# Altium schematic symbol library Basic Devices.SCHLIB: 237 symbols (part 1 of 2)
Pins are listed as number, name and electrical type; pins without a type are passive.

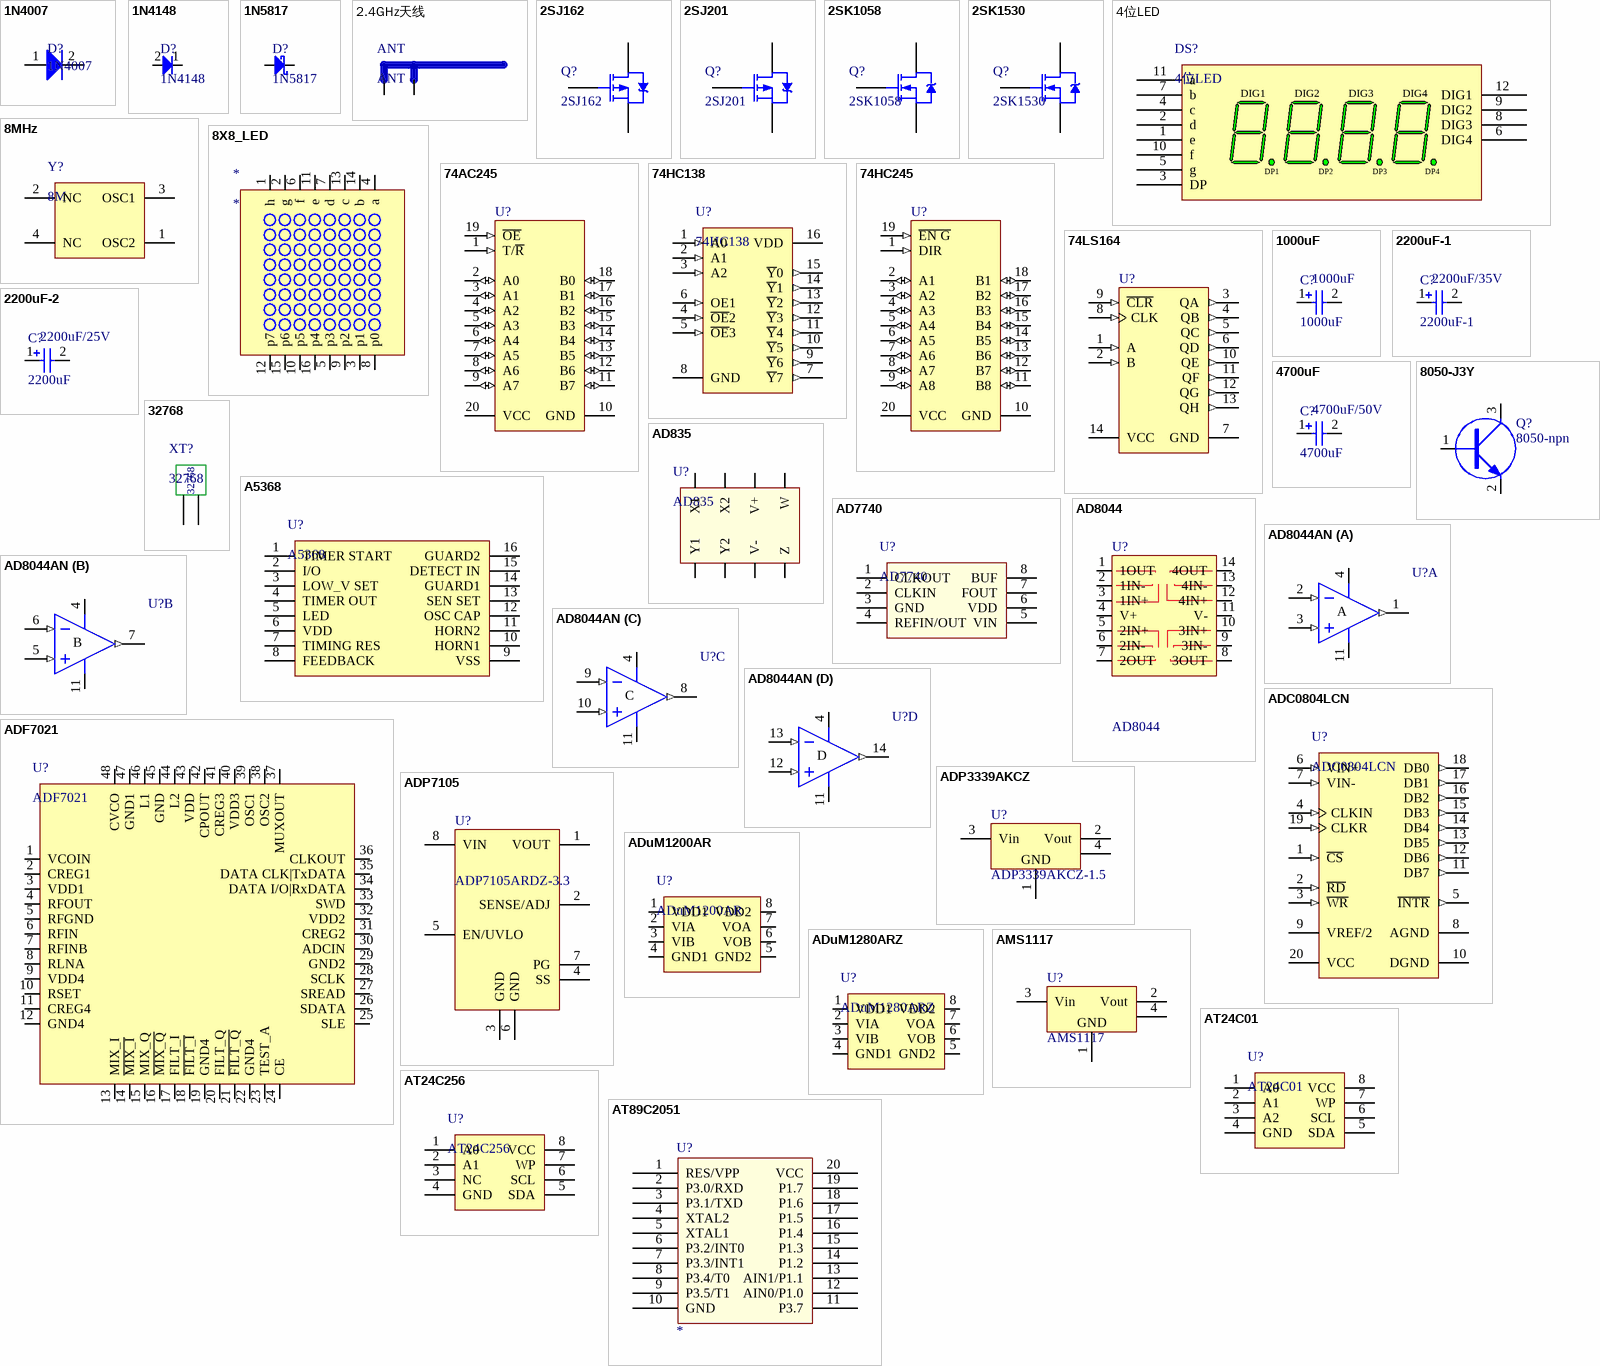
[diagram p0: symbols 1N4007 to AT89C2051]

## 1N4007
designator D?
整流二极管; Publisher: 赵国涛; Published: 20090215
footprint SMA/DO-214AC (Molded Diode, 2-Leads, Body 4.3x2.7mm, IPC Medium Density)
footprint DIODE-0.4 (Diode, Thru-Hole; 2 Leads; 0.4 in Pin Spacing)
pins: 1 A, 2 C

## 1N4148
designator D?
开关二极管; Publisher: 胡浩; Published: 20110225
footprint SMA/DO-214AC (Molded Diode, 2-Leads, Body 4.3x2.7mm, IPC Medium Density)
footprint DIODE-0.4 (Diode, Thru-Hole; 2 Leads; 0.4 in Pin Spacing)
pins: 1, 2

## 1N5817
designator D?
肖特基势垒整流二极管; Publisher: 赵国涛; Published: 20100927
footprint SMA/DO-214AC (Molded Diode, 2-Leads, Body 4.3x2.6mm, IPC Medium Density)
footprint SMB/DO-214AA (Molded Diode, 2-Leads, Body 4.3x3.6mm, IPC Medium Density)
footprint SMC/DO-214AB (Molded Diode, 2-Leads, Body 6.9x5.9mm, IPC Medium Density)
footprint 1206
pins: 1, 2

## 2.4GHz天线
designator ANT, comment ANT
footprint 2.4GHz天线
pins: 1 GND, 2 IN

## 2SJ162
designator Q?
PMOS; Publisher: 赵国涛; Published: 20110815
footprint TO-220AB
pins: 1 G, 2 S, 3 D

## 2SJ201
designator Q?
PMOS; Publisher: 赵国涛; Published: 20110905
footprint TO-220AB
pins: 1 G, 2 D, 3 S

## 2SK1058
designator Q?
NMOS; Published: 赵国涛; Published: 20110815
footprint TO-220AB
pins: 1 G, 2 S, 3 D

## 2SK1530
designator Q?
NMOS; Publisher: 赵国涛; Published: 20110905
footprint TO-220AB
pins: 1 G, 2 D, 3 S

## 4位LED
designator DS?
4位数码管; Publisher: 赵国涛; Published: 20090126
footprint 数码管
pins: 1 e, 2 d, 3 DP, 4 c, 5 g, 6 DIG4, 7 b, 8 DIG3, 9 DIG2, 10 f, 11 a, 12 DIG1
text: DP1; DP2; DP3; DP4

## 8MHz
designator Y?, comment 8M
8MHz无源晶振，5032封装; Publisher: 赵国涛; Published: 20100214
footprint 5032-4 (5032无源贴片晶振4P,  5*3.2mm)
pins: 1 OSC2, 2 NC, 3 OSC1, 4 NC

## 8X8_LED
designator *
footprint 点阵 (长宽：61mm。64个点。)
pins: 1 h, 2 g, 3 p1, 4 a, 5 p3, 6 f, 7 d, 8 p0, 9 p2, 10 p5, 11 e, 12 p7, 13 c, 14 b, 15 p6, 16 p4

## 74AC245
designator U?
Octal Bi-directional Transceivers with 3-State Inputs/Outputs; Published: 10-Feb-2010; DatasheetVersion: Rev.2.00, Jul-2004; PackageVersion: Sep-2005; PackageReference: PTSP0020JB-A; Publisher: Altium Limited; PackageDescription: 20-Pin Plastic Thin Small Outline Package, 6.5 x 4.4 mm Body, 0.65 mm Pitch; Code_JEITA: P-TSSOP20-4.4x6.5-0.65; ComponentLink1Description: Manufacturer Link; ComponentLink1URL: http://sg.renesas.com/fmwk.jsp?cnt=hd74ac_root.jsp&fp=/products/standard_ic/general_purpose_logic/5v_standard_logic/hd74ac/; ComponentLink2Description: Datasheet; ComponentLink2URL: http://documentation.renesas.com/eng/products/logic/rej03d0263_hd74ac245.pdf; ComponentLink3Description: Packaging Specification; ComponentLink3URL: http://sg.renesas.com/media/products/common_info/package/pdf/ic/code/ptsp0020jb_a.pdf
footprint SOIC-20N (SOIC, 20-Leads, Body 13.0x7.6mm (max), Pitch 1.27mm, IPC Medium Density)
footprint TSOP-20 (TSOP, 20-Leads, Body 6.5x3.2mm (max), Pitch 0.65mm, IPC Medium Density)
footprint SOP-20 (SOP, 20-Leads, Body 13.2x7.5mm (max), Pitch 1.27mm, IPC Medium Density)
footprint DIP-20 (WIDTH:300MIL)
pins: 1 T/~{R} (in), 2 A0 (io), 3 A1 (io), 4 A2 (io), 5 A3 (io), 6 A4 (io), 7 A5 (io), 8 A6 (io), 9 A7 (io), 10 GND (power), 11 B7 (io), 12 B6 (io), 13 B5 (io), 14 B4 (io), 15 B3 (io), 16 B2 (io), 17 B1 (io), 18 B0 (io), 19 ~{OE} (in), 20 VCC (power)

## 74HC138
designator U?
3-8译码器; Publisher: 赵国涛; Published: 20120305
footprint SOP-16
footprint DIP-16 (CHAZUO)
pins: 1 A0 (in), 2 A1 (in), 3 A2 (in), 4 ~{OE}2 (in), 5 ~{OE}3 (in), 6 OE1 (in), 7 ~{Y}7 (out), 8 GND (power), 9 ~{Y}6 (out), 10 ~{Y}5 (out), 11 ~{Y}4 (out), 12 ~{Y}3 (out), 13 ~{Y}2 (out), 14 ~{Y}1 (out), 15 ~{Y}0 (out), 16 VDD (power)

## 74HC245
designator U?
Octal Bus Transceivers with 3-State Outputs; Published: 10-Feb-2010; DatasheetVersion: Rev.2.00, Jan-2006; PackageVersion: Sep-2005; PackageReference: PTSP0020JB-A; Publisher: Altium Limited; PackageDescription: 20-Pin Plastic Thin Small Outline Package, 6.5 x 4.4 mm Body, 0.65 mm Pitch; Code_JEITA: P-TSSOP20-4.4x6.5-0.65; ComponentLink1Description: Manufacturer Link; ComponentLink1URL: http://sg.renesas.com/fmwk.jsp?cnt=hd74hc_root.jsp&fp=/products/standard_ic/general_purpose_logic/5v_standard_logic/hd74hc/; ComponentLink2Description: Datasheet; ComponentLink2URL: http://documentation.renesas.com/eng/products/logic/rej03d0598_hd74hc245ds.pdf; ComponentLink3Description: Packaging Specification; ComponentLink3URL: http://sg.renesas.com/media/products/common_info/package/pdf/ic/code/ptsp0020jb_a.pdf
footprint TSOP-20 (TSOP, 20-Leads, Body 6.5x3.2mm (max), Pitch 0.65mm, IPC Medium Density)
footprint SOP-20 (SOP, 20-Leads, Body 13.2x7.5mm (max), Pitch 1.27mm, IPC Medium Density)
footprint SOIC-20N (SOIC, 20-Leads, Body 13.0x7.6mm (max), Pitch 1.27mm, IPC Medium Density)
footprint DIP-20 (WIDTH:300MIL)
pins: 1 DIR (in), 2 A1 (io), 3 A2 (io), 4 A3 (io), 5 A4 (io), 6 A5 (io), 7 A6 (io), 8 A7 (io), 9 A8 (io), 10 GND (power), 11 B8 (io), 12 B7 (io), 13 B6 (io), 14 B5 (io), 15 B4 (io), 16 B3 (io), 17 B2 (io), 18 B1 (io), 19 ~{EN G} (in), 20 VCC (power)

## 74LS164
designator U?
8-bit Serial-In, Parallel-Out Shift Register; Published: 10-Feb-2010; DatasheetVersion: Rev.2.00, Feb-2005; PackageVersion: Sep-2005; PackageReference: PRDP0014AB-B; Publisher: Altium Limited; PackageDescription: 14-Pin Plastic DIP, 19.2 x 6.3 mm Body, 7.62 mm Row Spacing, Pitch 2.54 mm; Code_JEITA: P-DIP14-6.3x19.2-2.54; ComponentLink1Description: Manufacturer Link; ComponentLink1URL: http://sg.renesas.com/fmwk.jsp?cnt=hd74ls_root.jsp&fp=/products/standard_ic/general_purpose_logic/5v_standard_logic/hd74ls/; ComponentLink2Description: Datasheet; ComponentLink2URL: http://documentation.renesas.com/eng/products/logic/rej03d0448_hd74ls164.pdf; ComponentLink3Description: Packaging Specification; ComponentLink3URL: http://sg.renesas.com/media/products/common_info/package/pdf/ic/code/prdp0014ab_b.pdf
footprint DIP-14
footprint SOP-14 (SOP, 14-Leads, Body 8.7x3.9mm (max), Pitch 1.27mm, IPC Medium Density)
pins: 1 A (in), 2 B (in), 3 QA (out), 4 QB (out), 5 QC (out), 6 QD (out), 7 GND (power), 8 CLK (in), 9 ~{CLR} (in), 10 QE (out), 11 QF (out), 12 QG (out), 13 QH (out), 14 VCC (power)

## 1000uF
designator C?
Polarized Capacitor (Surface Mount); Published: 8-Jun-2000; LatestRevisionDate: 29-May-2009; LatestRevisionNote: IPC-7351 Footprint Added.; PackageReference: C0805; Publisher: Altium Limited; PackageDescription: Chip Capacitor; Value: 1000uF
footprint RB.2/.4 (电解电容封装；200mil；400Mil外径)
simulation model CAP (Capacitor)
signal-integrity model Cap Pol
pins: 1, 2
1 alternate drawing of the same symbol

## 2200uF-1
designator C?  value 2200uF/35V
Polarized Capacitor (Surface Mount); Published: 8-Jun-2000; LatestRevisionDate: 29-May-2009; LatestRevisionNote: IPC-7351 Footprint Added.; PackageReference: C0805; Publisher: Altium Limited; PackageDescription: Chip Capacitor
footprint RB.3/.6 (Polarized Capacitor (Radial); 2 Leads;300mil)
simulation model CAP (Capacitor)
signal-integrity model Cap Pol
pins: 1, 2
1 alternate drawing of the same symbol

## 2200uF-2
designator C?, comment 2200uF  value 2200uF/25V
Polarized Capacitor (Surface Mount); Published: 8-Jun-2000; LatestRevisionDate: 29-May-2009; LatestRevisionNote: IPC-7351 Footprint Added.; PackageReference: C0805; Publisher: Altium Limited; PackageDescription: Chip Capacitor
footprint RB.2/.5 (电解电容封装；200mil;500mil 外径)
simulation model CAP (Capacitor)
signal-integrity model Cap Pol
pins: 1, 2
1 alternate drawing of the same symbol

## 4700uF
designator C?  value 4700uF/50V
大电解电容; Published: 8-Jun-2000; LatestRevisionDate: 29-May-2009; LatestRevisionNote: IPC-7351 Footprint Added.; PackageReference: C0805; Publisher: Altium Limited; PackageDescription: Chip Capacitor
footprint RB.4/.8 (Polarized Capacitor (Radial); 2 Leads;400mil)
simulation model CAP (Capacitor)
signal-integrity model Cap Pol
pins: 1, 2
1 alternate drawing of the same symbol

## 8050-J3Y
designator Q?, comment 8050-npn
NPN贴片三极管; package: SOT-23-3
footprint SOT23-3
pins: 1 B, 2 E, 3 C

## 32768
designator XT?
32768 CRYSTAL
footprint 32768 (32768 PIN)
footprint XTAL-32768
pins: 1 IN, 2 OUT

## A5368
designator U?
Smoke sensor detector
footprint DIP-16 (CHAZUO)
pins: 1 TIMER START, 2 I/O, 3 LOW_V SET, 4 TIMER OUT, 5 LED, 6 VDD, 7 TIMING RES, 8 FEEDBACK, 9 VSS, 10 HORN1, 11 HORN2, 12 OSC CAP, 13 SEN SET, 14 GUARD1, 15 DETECT IN, 16 GUARD2

## AD835
designator U?
250 MHz, Voltage Output, 4-Quadrant Multiplier
footprint DIP-8
pins: 1 Y1, 2 Y2, 3 V-, 4 Z, 5 W, 6 V+, 7 X2, 8 X1

## AD7740
designator U?
TI的压频转换器
footprint DIP-8
footprint SOP-8
pins: 1 CLKOUT, 2 CLKIN, 3 GND, 4 REFIN/OUT, 5 VIN, 6 VDD, 7 FOUT, 8 BUF

## AD8044
designator U?
Quad 150 MHz  Rail-to-Rail Amplifier; Published: 10-Feb-2010; DatasheetVersion: Rev.2.00, Feb-2005; PackageVersion: Sep-2005; PackageReference: PRDP0014AB-B; Publisher: Altium Limited; PackageDescription: 14-Pin Plastic DIP, 19.2 x 6.3 mm Body, 7.62 mm Row Spacing, Pitch 2.54 mm; Code_JEITA: P-DIP14-6.3x19.2-2.54; ComponentLink1Description: Manufacturer Link; ComponentLink1URL: http://sg.renesas.com/fmwk.jsp?cnt=hd74ls_root.jsp&fp=/products/standard_ic/general_purpose_logic/5v_standard_logic/hd74ls/; ComponentLink2Description: Datasheet; ComponentLink2URL: http://documentation.renesas.com/eng/products/logic/rej03d0448_hd74ls164.pdf; ComponentLink3Description: Packaging Specification; ComponentLink3URL: http://sg.renesas.com/media/products/common_info/package/pdf/ic/code/prdp0014ab_b.pdf
footprint DIP-14
footprint SOP-14 (SOP, 14-Leads, Body 8.7x3.9mm (max), Pitch 1.27mm, IPC Medium Density)
pins: 1 1OUT, 2 1IN-, 3 1IN+, 4 V+, 5 2IN+, 6 2IN-, 7 2OUT, 8 3OUT, 9 3IN-, 10 3IN+, 11 V-, 12 4IN+, 13 4IN-, 14 4OUT

## AD8044AN
designator U?
Quad 150MHz Rail-to-Rail Amplifier; Published: 8-Jun-2000; LatestRevisionDate: 04-Mar-2005; LatestRevisionNote: Stylized 3D Model Added.; DatasheetVersion: REV. 0 1995; PackageVersion: 1999; PackageReference: N-14; Publisher: Altium Limited; PackageDescription: DIP; 14 Leads; Row Spacing 7.62 mm; Pitch 2.54 mm; ComponentLink1Description: Manufacturer Link; ComponentLink1URL: http://www.analog.com/en/prod/0,,759_786_AD8044%2C00.html; ComponentLink2Description: Datasheet; ComponentLink2URL: http://www.analog.com/UploadedFiles/Data_Sheets/631034639AD8044_b.pdf
footprint DIP-14 (DIP, 14-Leads, Row Spacing 300mil, Pitch 2.54mm, Body 19.2x6.3mm)
pins on every part: 4 V+ (power), 11 V- (power)
part A pins: 1 OUT (out), 2 IN- (in), 3 IN+ (in)
part B pins: 5 IN+ (in), 6 IN- (in), 7 OUT (out)
part C pins: 8 OUT (out), 9 IN- (in), 10 IN+ (in)
part D pins: 12 IN+ (in), 13 IN- (in), 14 OUT (out)
part A text: A
part B text: B
part C text: C
part D text: D

## ADC0804LCN
designator U?
8-Bit uP Compatible A/D Converters; Manufacturer: National Semiconductor; CompType: ADC IC; PackageTopMarking: NSUZXYYTTE#*ADC0804LCN; PowerWise: N; Published: 4-Dec-2008; DatasheetVersion: Sep-1992; PackageVersion: revG, Nov-1984; PackageReference: N20A; Publisher: Altium Limited; PackageDescription: Molded Dip (N) 20 Lead; PartNumber: ADC0804LCN; RoHS: O; PinCount: 20; DigiKeyPartNumber: ADC0804LCN-ND; Code_JEDEC: MS-001-AD; ComponentLink1Description: ADC0804 Datasheet; ComponentLink1URL: http://www.national.com/ds/AD/ADC0804.pdf; ComponentLink2Description: ADC0804 Web Page; ComponentLink2URL: http://www.national.com/pf/AD/ADC0804.html; ComponentLink3Description: N20A Package Page; ComponentLink3URL: http://www.national.com/packaging/folders/n20a.html
footprint DIP-20 (WIDTH:300MIL)
pins: 1 ~{CS} (in), 2 ~{RD} (in), 3 ~{WR} (in), 4 CLKIN (in), 5 ~{INTR} (out), 6 VIN+ (in), 7 VIN- (in), 8 AGND (power), 9 VREF/2 (power), 10 DGND (power), 11 DB7 (out), 12 DB6 (out), 13 DB5 (out), 14 DB4 (out), 15 DB3 (out), 16 DB2 (out), 17 DB1 (out), 18 DB0 (out), 19 CLKR (in), 20 VCC (power)

## ADF7021
designator U?
High Performance Narrowband   ISM Transceiver IC; 作者: 赵国涛; 封装: LFCSP-48; 日期: 2014-3-24
footprint LFCSP-48 (TI's package: LFCSP-48(QFN48))
pins: 1 VCOIN, 2 CREG1, 3 VDD1, 4 RFOUT, 5 RFGND, 6 RFIN, 7 RFINB, 8 RLNA, 9 VDD4, 10 RSET, 11 CREG4, 12 GND4, 13 MIX_I, 14 ~{MIX_I}, 15 MIX_Q, 16 ~{MIX_Q}, 17 FILT_I, 18 ~{FILT_I}, 19 GND4, 20 FILT_Q, 21 ~{FILT_Q}, 22 GND4, 23 TEST_A, 24 CE, 25 SLE, 26 SDATA, 27 SREAD, 28 SCLK, 29 GND2, 30 ADCIN, 31 CREG2, 32 VDD2, 33 SWD, 34 DATA I/O|RxDATA, 35 DATA CLK|TxDATA, 36 CLKOUT, 37 MUXOUT, 38 OSC2, 39 OSC1, 40 VDD3, 41 CREG3, 42 CPOUT, 43 VDD, 44 L2, 45 GND, 46 L1, 47 GND1, 48 CVCO

## ADP3339AKCZ
designator U?, comment ADP3339AKCZ-1.5
AD 1.5A LDO;VOUT=1.5V; Published: 24-Mar-1999; LatestRevisionDate: 17-Jul-2002; LatestRevisionNote: Re-released for DXP Platform.; PackageReference: SOT223; Publisher: ZGT; Code_JEDEC: SMD-220
footprint SOT223 (SOT223, 4-Leads, Body 6.5x3.5mm, Pitch 2.3mm, Lead Span 7mm, IPC High Density)
pins: 1 GND, 2 Vout, 3 Vin, 4 VOUT

## ADP7105
designator U?, comment ADP7105ARDZ-3.3
AD 20 V, 500 mA, Low Noise LDO Regulatorwith Soft Start; Published: 24-Mar-1999; LatestRevisionDate: 17-Jul-2002; LatestRevisionNote: Re-released for DXP Platform.; PackageReference: SOT223; Publisher: ZGT; Code_JEDEC: SMD-220
footprint SOP-8
pins: 1 VOUT, 2 SENSE/ADJ, 3 GND, 4 SS, 5 EN/UVLO, 6 GND, 7 PG, 8 VIN

## ADuM1200AR
designator U?
AD's Dual-Channel Digital Isolators; 作者: 赵国涛; 封装: SOP-8; 日期: 2014-3-24
footprint SOP-8
pins: 1 VDD1, 2 VIA, 3 VIB, 4 GND1, 5 GND2, 6 VOB, 7 VOA, 8 VDD2

## ADuM1280ARZ
designator U?
AD's 3 kV RMS Dual Channel Digital Isolators; 作者: 赵国涛; 封装: SOIC-8; 日期: 2014-3-24
footprint SOIC-8N (SOIC, 8-Leads, Body 5.0x4.0mm (max), Pitch 1.27mm, IPC Medium Density)
pins: 1 VDD1, 2 VIA, 3 VIB, 4 GND1, 5 GND2, 6 VOB, 7 VOA, 8 VDD2

## AMS1117
designator U?
200mA线性稳压器; Published: 24-Mar-1999; LatestRevisionDate: 17-Jul-2002; LatestRevisionNote: Re-released for DXP Platform.; PackageReference: D2PAK; Publisher: Altium Limited; Code_JEDEC: SMD-220
footprint SOT223 (SOT223, 4-Leads, Body 6.5x3.5mm, Pitch 2.3mm, Lead Span 7mm, IPC High Density)
pins: 1 GND, 2 Vout, 3 Vin, 4 VOUT

## AT24C01
designator U?
EEPROM; Publisher: 赵国涛; Published: 20110214
footprint DIP-8
footprint 8-直插转贴片
pins: 1 A0, 2 A1, 3 A2, 4 GND, 5 SDA, 6 SCL, 7 WP, 8 VCC

## AT24C256
designator U?
EEPROM; Publisher: 胡浩; published: 20120112
footprint SOIC-8N
pins: 1 A0, 2 A1, 3 NC, 4 GND, 5 SDA, 6 SCL, 7 WP, 8 VCC

## AT89C2051
designator U?
8位单片机
footprint DIP-20
pins: 1 RES/VPP, 2 P3.0/RXD, 3 P3.1/TXD, 4 XTAL2, 5 XTAL1, 6 P3.2/INT0, 7 P3.3/INT1, 8 P3.4/T0, 9 P3.5/T1, 10 GND, 11 P3.7, 12 AIN0/P1.0, 13 AIN1/P1.1, 14 P1.2, 15 P1.3, 16 P1.4, 17 P1.5, 18 P1.6, 19 P1.7, 20 VCC

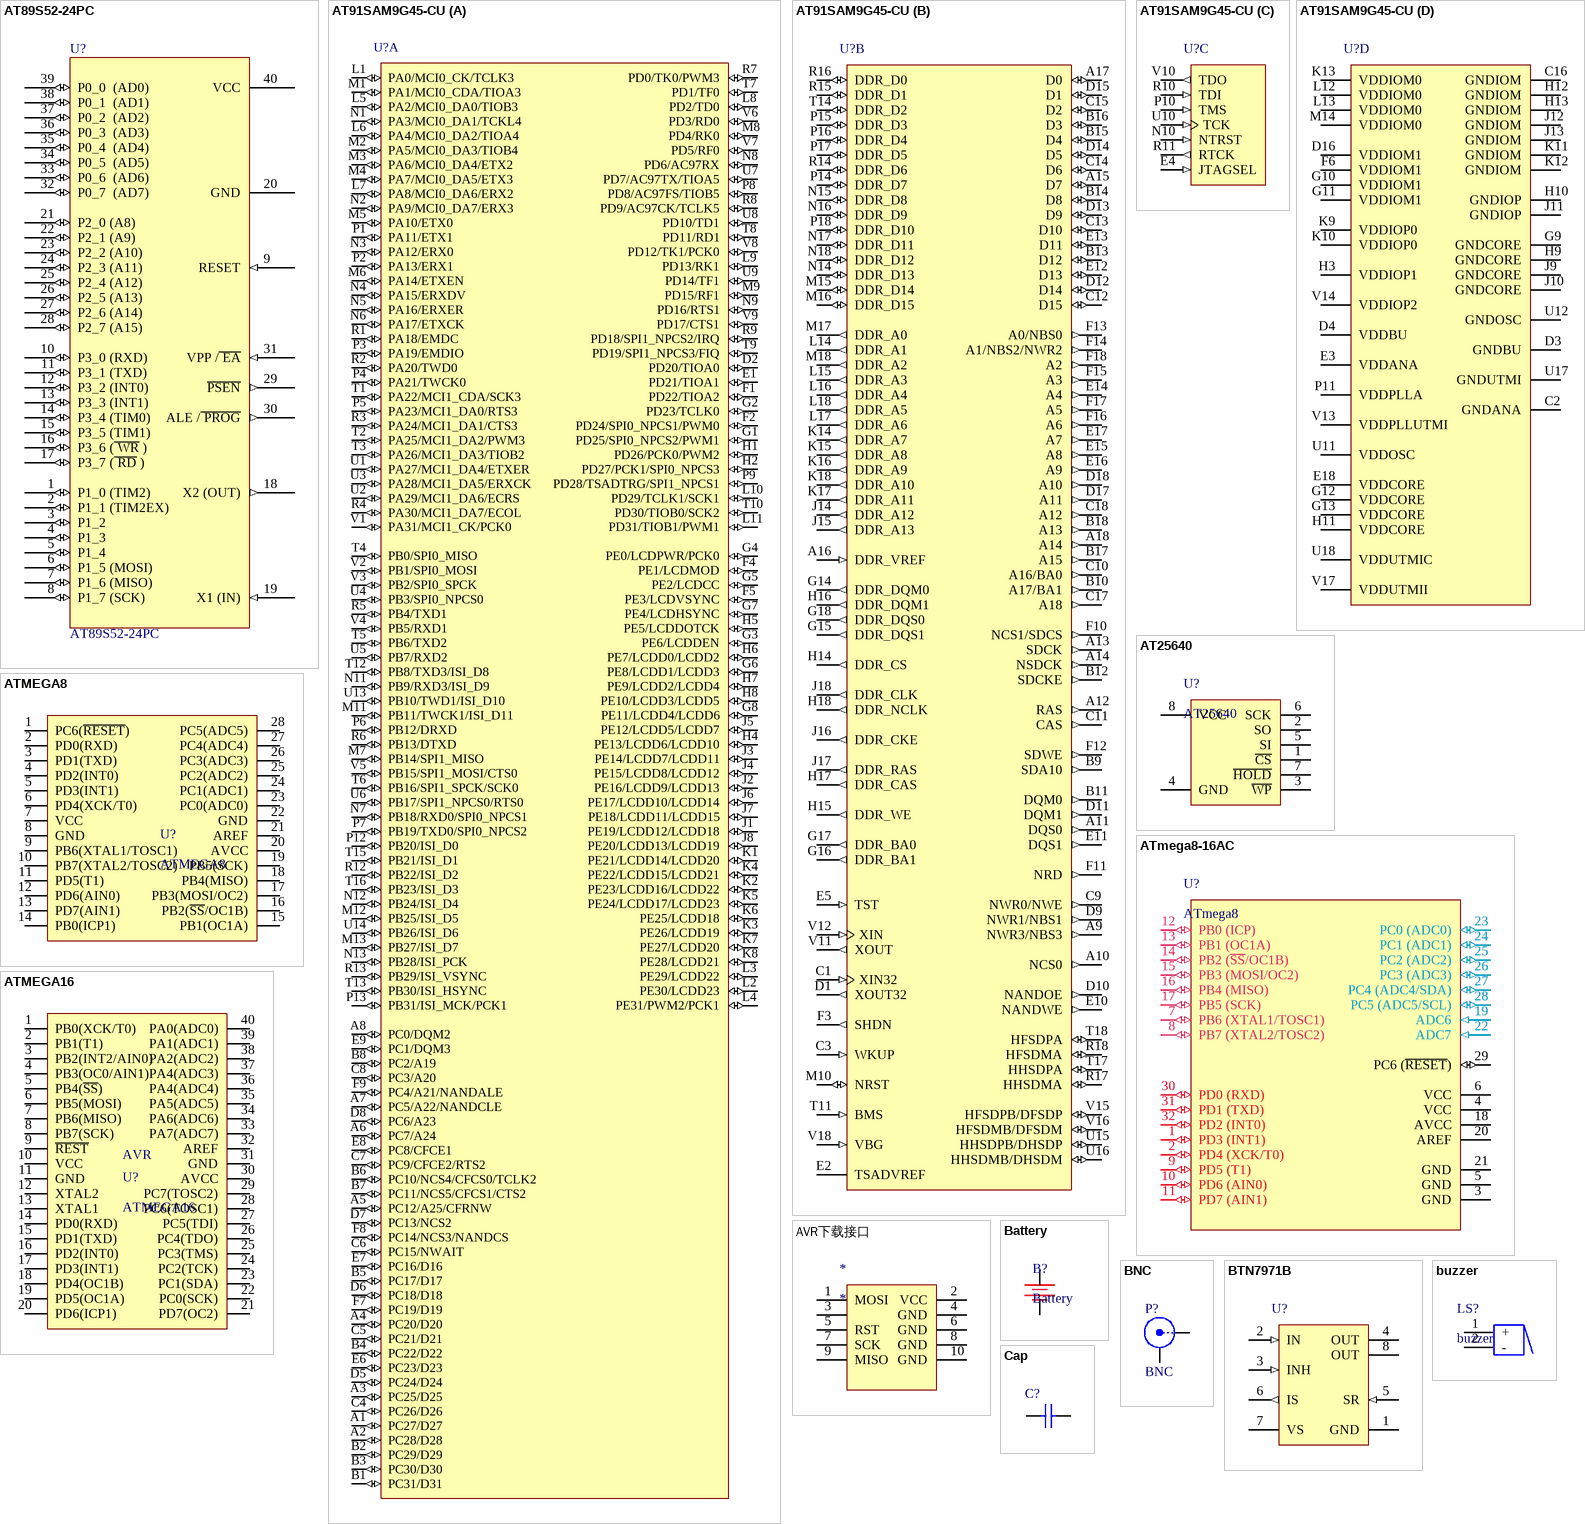
[diagram p1: symbols AT89S52-24PC to Cap]

## AT89S52-24PC
designator U?
Atmel 8 Bit Micro 4.0-5.5V 24MHz 0-70 Deg C 40 PDIP (40P6) Package; GREEN OPTION: NO; Vendor: ATMEL; PartNr: AT89S52-24PC; PackAge: 40P6 40-pin, 0.600" Wide, Plastic Dual Inline Package (PDIP)
footprint DIP-40
pins: 1 P1_0 (TIM2) (io) "PORT 1 BIT 0 OR TIM2", 2 P1_1 (TIM2EX) (io) "PORT 1 BIT 1 OR TIM2 EX", 3 P1_2 (io) "PORT 1 BIT 2", 4 P1_3 (io) "PORT 1 BIT 3", 5 P1_4 (io) "PORT 1 BIT 4", 6 P1_5 (MOSI) (io) "PORT 1 BIT 5 OR MOSI", 7 P1_6 (MISO) (io) "PORT 1 BIT 6 OR MISO", 8 P1_7 (SCK) (io) "PORT 1 BIT 7 OR SCK", 9 RESET (in) "RESET IN", 10 P3_0 (RXD) (io) "PORT 3 BIT 0 OR RXD", 11 P3_1 (TXD) (io) "PORT 3 BIT 1 OR TXD", 12 P3_2 (INT0) (io) "PORT 3 BIT 2 OR INT0", 13 P3_3 (INT1) (io) "PORT 3 BIT 3 OR INT1", 14 P3_4 (TIM0) (io) "PORT 3 BIT 4 OR TIM0", 15 P3_5 (TIM1) (io) "PORT 3 BIT 5 OR TIM1", 16 P3_6 (~{ WR} ) (io) "PORT 3 BIT 6 OR /WR", 17 P3_7 (~{ RD} ) (io) "PORT 3 BIT 7 OR /RD", 18 X2 (OUT) (out) "CLCOK OSC OUT", 19 X1 (IN) (in) "XTAL 1 OR CLK INPUT", 20 GND (power) "POWER GND", 21 P2_0 (A8) (io) "PORT 2 BIT 0 OR A8", 22 P2_1 (A9) (io) "PORT 2 BIT 1 OR A9", 23 P2_2 (A10) (io) "PORT 2 BIT 2 OR A10", 24 P2_3 (A11) (io) "PORT 2 BIT 3 OR A11", 25 P2_4 (A12) (io) "PORT 2 BIT 4 OR A12", 26 P2_5 (A13) (io) "PORT 2 BIT 5 OR A13", 27 P2_6 (A14) (io) "PORT 2 BIT 6 OR A14", 28 P2_7 (A15) (io) "PORT 2 BIT 7 OR A15", 29 ~{PSEN} (out) "PROG STORE ENABLE", 30 ALE /~{ PROG} (out) "ALE / PROG PULSE IN", 31 VPP /~{ EA} (in) "EX ACCESS ENABLE OR VPP IN", 32 P0_7  (AD7) (io) "PORT 0 BIT 0  (AD7)", 33 P0_6  (AD6) (io) "PORT 0 BIT 0  (AD6)", 34 P0_5  (AD5) (io) "PORT 0 BIT 0  (AD5)", 35 P0_4  (AD4) (io) "PORT 0 BIT 0  (AD4)", 36 P0_3  (AD3) (io) "PORT 0 BIT 0  (AD3)", 37 P0_2  (AD2) (io) "PORT 0 BIT 0  (AD2)", 38 P0_1  (AD1) (io) "PORT 0 BIT 0  (AD1)", 39 P0_0  (AD0) (io) "PORT 0 BIT 0  (AD0)", 40 VCC (power) "VCC 5V NOMINAL"

## AT91SAM9G45-CU
designator U?
AT91 ARM Thumb 32-bit Microcontroller, 64KB ROM, 64KB SRAM, EBI, E-MAC, HS USB, 24-ch. PDC, 324-Pin TFBGA, Industrial Grade (-40癈 to 85癈), Pb-Free; Published: 20-Sep-2010; DatasheetVersion: revE, Dec-2009; PackageVersion: 2009; PackageReference: TFBGA324; Publisher: Altium Limited; PackageDescription: 324-Ball Low Profile Fine-Pitch BGA, 15 x 15 mm Body, 0.8 mm Pitch; Supplier 1: Digi-Key; Supplier Part Number 1: AT91SAM9G45-CU-ND; Supplier 2: Mouser; Supplier Part Number 2: 556-AT91SAM9G45-CU; Code_JEDEC: MO-210; ComponentLink1Description: Manufacturer Link; ComponentLink1URL: http://www.atmel.com/products/AT91/default.asp?; ComponentLink2Description: AT91SAM9G45 Datasheet; ComponentLink2URL: http://www.atmel.com/dyn/resources/prod_documents/doc6438.pdf; ComponentLink3Description: AT91SAM9G45 Summary; ComponentLink3URL: http://www.atmel.com/dyn/resources/prod_documents/6438s.pdf; ComponentLink4Description: ARM926EJ-S Reference Manual; ComponentLink4URL: http://www.atmel.com/dyn/resources/prod_documents/ARM_926EJS_TRM.pdf; ComponentLink5Description: Atmel.com Home; ComponentLink5URL: http://www.atmel.com
footprint TFBGA324 (BGA, 324-Leads, Body 15x15mm, Pitch 0.8mm;SAMA5D3)
part A pins: A1 PC27/D27 (io), A2 PC28/D28 (io), A3 PC25/D25 (io), A4 PC20/D20 (io), A5 PC12/A25/CFRNW (io), A6 PC7/A24 (io), A7 PC5/A22/NANDCLE (io), A8 PC0/DQM2 (io), B1 PC31/D31 (io), B2 PC29/D29 (io), B3 PC30/D30 (io), B4 PC22/D22 (io), B5 PC17/D17 (io), B6 PC10/NCS4/CFCS0/TCLK2 (io), B7 PC11/NCS5/CFCS1/CTS2 (io), B8 PC2/A19 (io), C4 PC26/D26 (io), C5 PC21/D21 (io), C6 PC15/NWAIT (io), C7 PC9/CFCE2/RTS2 (io), C8 PC3/A20 (io), D2 PD20/TIOA0 (io), D5 PC24/D24 (io), D6 PC18/D18 (io), D7 PC13/NCS2 (io), D8 PC6/A23 (io), E1 PD21/TIOA1 (io), E6 PC23/D23 (io), E7 PC16/D16 (io), E8 PC8/CFCE1 (io), E9 PC1/DQM3 (io), F1 PD22/TIOA2 (io), F2 PD24/SPI0_NPCS1/PWM0 (io), F4 PE1/LCDMOD (io), F5 PE3/LCDVSYNC (io), F7 PC19/D19 (io), F8 PC14/NCS3/NANDCS (io), F9 PC4/A21/NANDALE (io), G1 PD25/SPI0_NPCS2/PWM1 (io), G2 PD23/TCLK0 (io), G3 PE6/LCDDEN (io), G4 PE0/LCDPWR/PCK0 (io), G5 PE2/LCDCC (io), G6 PE8/LCDD1/LCDD3 (io), G7 PE4/LCDHSYNC (io), G8 PE11/LCDD4/LCDD6 (io), H1 PD26/PCK0/PWM2 (io), H2 PD27/PCK1/SPI0_NPCS3 (io), H4 PE13/LCDD6/LCDD10 (io), H5 PE5/LCDDOTCK (io), H6 PE7/LCDD0/LCDD2 (io), H7 PE9/LCDD2/LCDD4 (io), H8 PE10/LCDD3/LCDD5 (io), J1 PE19/LCDD12/LCDD18 (io), J2 PE16/LCDD9/LCDD13 (io), J3 PE14/LCDD7/LCDD11 (io), J4 PE15/LCDD8/LCDD12 (io), J5 PE12/LCDD5/LCDD7 (io), J6 PE17/LCDD10/LCDD14 (io), J7 PE18/LCDD11/LCDD15 (io), J8 PE20/LCDD13/LCDD19 (io), K1 PE21/LCDD14/LCDD20 (io), K2 PE23/LCDD16/LCDD22 (io), K3 PE26/LCDD19 (io), K4 PE22/LCDD15/LCDD21 (io), K5 PE24/LCDD17/LCDD23 (io), K6 PE25/LCDD18 (io), K7 PE27/LCDD20 (io), K8 PE28/LCDD21 (io), L1 PA0/MCI0_CK/TCLK3 (io), L2 PE30/LCDD23 (io), L3 PE29/LCDD22 (io), L4 PE31/PWM2/PCK1 (io), L5 PA2/MCI0_DA0/TIOB3 (io), L6 PA4/MCI0_DA2/TIOA4 (io), L7 PA8/MCI0_DA6/ERX2 (io), L8 PD2/TD0 (io), L9 PD13/RK1 (io), L10 PD29/TCLK1/SCK1 (io), L11 PD31/TIOB1/PWM1 (io), M1 PA1/MCI0_CDA/TIOA3 (io), M2 PA5/MCI0_DA3/TIOB4 (io), M3 PA6/MCI0_DA4/ETX2 (io), M4 PA7/MCI0_DA5/ETX3 (io), M5 PA10/ETX0 (io), M6 PA14/ETXEN (io), M7 PB14/SPI1_MISO (io), M8 PD4/RK0 (io), M9 PD15/RF1 (io), M11 PB11/TWCK1/ISI_D11 (io), M12 PB25/ISI_D5 (io), M13 PB27/ISI_D7 (io), N1 PA3/MCI0_DA1/TCKL4 (io), N2 PA9/MCI0_DA7/ERX3 (io), N3 PA12/ERX0 (io), N4 PA15/ERXDV (io), N5 PA16/ERXER (io), N6 PA17/ETXCK (io), N7 PB18/RXD0/SPI0_NPCS1 (io), N8 PD6/AC97RX (io), N9 PD16/RTS1 (io), N11 PB9/RXD3/ISI_D9 (io), N12 PB24/ISI_D4 (io), N13 PB28/ISI_PCK (io), P1 PA11/ETX1 (io), P2 PA13/ERX1 (io), P3 PA19/EMDIO (io), P4 PA21/TWCK0 (io), P5 PA23/MCI1_DA0/RTS3 (io), P6 PB12/DRXD (io), P7 PB19/TXD0/SPI0_NPCS2 (io), P8 PD8/AC97FS/TIOB5 (io), P9 PD28/TSADTRG/SPI1_NPCS1 (io), P12 PB20/ISI_D0 (io), P13 PB31/ISI_MCK/PCK1 (io), R1 PA18/EMDC (io), R2 PA20/TWD0 (io), R3 PA24/MCI1_DA1/CTS3 (io), R4 PA30/MCI1_DA7/ECOL (io), R5 PB4/TXD1 (io), R6 PB13/DTXD (io), R7 PD0/TK0/PWM3 (io), R8 PD9/AC97CK/TCLK5 (io), R9 PD18/SPI1_NPCS2/IRQ (io), R12 PB22/ISI_D2 (io), R13 PB29/ISI_VSYNC (io), T1 PA22/MCI1_CDA/SCK3 (io), T2 PA25/MCI1_DA2/PWM3 (io), T3 PA26/MCI1_DA3/TIOB2 (io), T4 PB0/SPI0_MISO (io), T5 PB6/TXD2 (io), T6 PB16/SPI1_SPCK/SCK0 (io), T7 PD1/TF0 (io), T8 PD11/RD1 (io), T9 PD19/SPI1_NPCS3/FIQ (io), T10 PD30/TIOB0/SCK2 (io), T12 PB8/TXD3/ISI_D8 (io), T13 PB30/ISI_HSYNC (io), T15 PB21/ISI_D1 (io), T16 PB23/ISI_D3 (io), U1 PA27/MCI1_DA4/ETXER (io), U2 PA29/MCI1_DA6/ECRS (io), U3 PA28/MCI1_DA5/ERXCK (io), U4 PB3/SPI0_NPCS0 (io), U5 PB7/RXD2 (io), U6 PB17/SPI1_NPCS0/RTS0 (io), U7 PD7/AC97TX/TIOA5 (io), U8 PD10/TD1 (io), U9 PD14/TF1 (io), U13 PB10/TWD1/ISI_D10 (io), U14 PB26/ISI_D6 (io), V1 PA31/MCI1_CK/PCK0 (io), V2 PB1/SPI0_MOSI (io), V3 PB2/SPI0_SPCK (io), V4 PB5/RXD1 (io), V5 PB15/SPI1_MOSI/CTS0 (io), V6 PD3/RD0 (io), V7 PD5/RF0 (io), V8 PD12/TK1/PCK0 (io), V9 PD17/CTS1 (io)
part B pins: A9 NWR3/NBS3 (out), A10 NCS0 (out), A11 DQS0 (out), A12 RAS (out), A13 SDCK (out), A14 NSDCK (out), A15 D7 (io), A16 DDR_VREF (in), A17 D0 (io), A18 A14 (out), B9 SDA10 (out), B10 A17/BA1 (out), B11 DQM0 (out), B12 SDCKE (out), B13 D12 (io), B14 D8 (io), B15 D4 (io), B16 D3 (io), B17 A15 (out), B18 A13 (out), C1 XIN32 (in), C3 WKUP (in), C9 NWR0/NWE (out), C10 A16/BA0 (out), C11 CAS (out), C12 D15 (io), C13 D10 (io), C14 D6 (io), C15 D2 (io), C17 A18 (out), C18 A12 (out), D1 XOUT32 (out), D9 NWR1/NBS1 (out), D10 NANDOE (out), D11 DQM1 (out), D12 D14 (io), D13 D9 (io), D14 D5 (io), D15 D1 (io), D17 A11 (out), D18 A10 (out), E2 TSADVREF (power), E5 TST (in), E10 NANDWE (out), E11 DQS1 (out), E12 D13 (io), E13 D11 (io), E14 A4 (out), E15 A8 (out), E16 A9 (out), E17 A7 (out), F3 SHDN (out), F10 NCS1/SDCS (out), F11 NRD (out), F12 SDWE (out), F13 A0/NBS0 (out), F14 A1/NBS2/NWR2 (out), F15 A3 (out), F16 A6 (out), F17 A5 (out), F18 A2 (out), G14 DDR_DQM0 (out), G15 DDR_DQS1 (out), G16 DDR_BA1 (out), G17 DDR_BA0 (out), G18 DDR_DQS0 (out), H14 DDR_CS (out), H15 DDR_WE (out), H16 DDR_DQM1 (out), H17 DDR_CAS (out), H18 DDR_NCLK (out), J14 DDR_A12 (out), J15 DDR_A13 (out), J16 DDR_CKE (out), J17 DDR_RAS (out), J18 DDR_CLK (out), K14 DDR_A7 (out), K15 DDR_A8 (out), K16 DDR_A9 (out), K17 DDR_A11 (out), K18 DDR_A10 (out), L14 DDR_A1 (out), L15 DDR_A3 (out), L16 DDR_A4 (out), L17 DDR_A6 (out), L18 DDR_A5 (out), M10 NRST (io), M15 DDR_D14 (io), M16 DDR_D15 (io), M17 DDR_A0 (out), M18 DDR_A2 (out), N14 DDR_D13 (io), N15 DDR_D8 (io), N16 DDR_D9 (io), N17 DDR_D11 (io), N18 DDR_D12 (io), P14 DDR_D7 (io), P15 DDR_D3 (io), P16 DDR_D4 (io), P17 DDR_D5 (io), P18 DDR_D10 (io), R14 DDR_D6 (io), R15 DDR_D1 (io), R16 DDR_D0 (io), R17 HHSDMA (io), R18 HFSDMA (io), T11 BMS (in), T14 DDR_D2 (io), T17 HHSDPA (io), T18 HFSDPA (io), U15 HHSDPB/DHSDP (io), U16 HHSDMB/DHSDM (io), V11 XOUT (out), V12 XIN (in), V15 HFSDPB/DFSDP (io), V16 HFSDMB/DFSDM (io), V18 VBG (in)
part C pins: E4 JTAGSEL (in), N10 NTRST (in), P10 TMS (in), R10 TDI (in), R11 RTCK (out), U10 TCK (in), V10 TDO (out)
part D pins: C2 GNDANA (power), C16 GNDIOM (power), D3 GNDBU (power), D4 VDDBU (power), D16 VDDIOM1 (power), E3 VDDANA (power), E18 VDDCORE (power), F6 VDDIOM1 (power), G9 GNDCORE (power), G10 VDDIOM1 (power), G11 VDDIOM1 (power), G12 VDDCORE (power), G13 VDDCORE (power), H3 VDDIOP1 (power), H9 GNDCORE (power), H10 GNDIOP (power), H11 VDDCORE (power), H12 GNDIOM (power), H13 GNDIOM (power), J9 GNDCORE (power), J10 GNDCORE (power), J11 GNDIOP (power), J12 GNDIOM (power), J13 GNDIOM (power), K9 VDDIOP0 (power), K10 VDDIOP0 (power), K11 GNDIOM (power), K12 GNDIOM (power), K13 VDDIOM0 (power), L12 VDDIOM0 (power), L13 VDDIOM0 (power), M14 VDDIOM0 (power), P11 VDDPLLA (power), U11 VDDOSC (power), U12 GNDOSC (power), U17 GNDUTMI (power), U18 VDDUTMIC (power), V13 VDDPLLUTMI (power), V14 VDDIOP2 (power), V17 VDDUTMII (power)

## AT25640
designator U?
EEPROM with SPI; Publisher: 赵国涛; Published: 20110214
footprint DIP-8
pins: 1 ~{CS}, 2 SO, 3 ~{WP}, 4 GND, 5 SI, 6 SCK, 7 ~{HOLD}, 8 VCC

## ATMEGA8
designator U?
AVR 8位单片机
footprint DIP-28
pins: 1 PC6(~{RESET}), 2 PD0(RXD), 3 PD1(TXD), 4 PD2(INT0), 5 PD3(INT1), 6 PD4(XCK/T0), 7 VCC, 8 GND, 9 PB6(XTAL1/TOSC1), 10 PB7(XTAL2/TOSC2), 11 PD5(T1), 12 PD6(AIN0), 13 PD7(AIN1), 14 PB0(ICP1), 15 PB1(OC1A), 16 PB2(~{SS}/OC1B), 17 PB3(MOSI/OC2), 18 PB4(MISO), 19 PB5(SCK), 20 AVCC, 21 AREF, 22 GND, 23 PC0(ADC0), 24 PC1(ADC1), 25 PC2(ADC2), 26 PC3(ADC3), 27 PC4(ADC4), 28 PC5(ADC5)

## ATmega8-16AC
designator U?, comment ATmega8
8-Bit AVR Microcontroller with 8K Bytes of In-System Programmable Flash Memory; Publi: 胡浩; Published: 20110225
footprint TQFP-32L (Thin QFP, 32-Leads, Body 7x7mm, Pitch 0.8mm, IPC Medium Density)
footprint TQFP-32N (Thin QFP, 32-Leads, Body 7x7mm, Pitch 0.8mm, IPC Medium Density)
pins: 1 PD3 (INT1) (io), 2 PD4 (XCK/T0) (io), 3 GND (power), 4 VCC (power), 5 GND (power), 6 VCC (power), 7 PB6 (XTAL1/TOSC1) (io), 8 PB7 (XTAL2/TOSC2) (io), 9 PD5 (T1) (io), 10 PD6 (AIN0) (io), 11 PD7 (AIN1) (io), 12 PB0 (ICP) (io), 13 PB1 (OC1A) (io), 14 PB2 (~{SS}/OC1B) (io), 15 PB3 (MOSI/OC2) (io), 16 PB4 (MISO) (io), 17 PB5 (SCK) (io), 18 AVCC (power), 19 ADC6 (in), 20 AREF, 21 GND (power), 22 ADC7 (in), 23 PC0 (ADC0) (io), 24 PC1 (ADC1) (io), 25 PC2 (ADC2) (io), 26 PC3 (ADC3) (io), 27 PC4 (ADC4/SDA) (io), 28 PC5 (ADC5/SCL) (io), 29 PC6 (~{RESET}) (io), 30 PD0 (RXD) (io), 31 PD1 (TXD) (io), 32 PD2 (INT0) (io)

## ATMEGA16
designator U?
AVR 8位单片机
footprint DIP-40
pins: 1 PB0(XCK/T0), 2 PB1(T1), 3 PB2(INT2/AIN0), 4 PB3(OC0/AIN1), 5 PB4(~{SS}), 6 PB5(MOSI), 7 PB6(MISO), 8 PB7(SCK), 9 ~{REST}, 10 VCC, 11 GND, 12 XTAL2, 13 XTAL1, 14 PD0(RXD), 15 PD1(TXD), 16 PD2(INT0), 17 PD3(INT1), 18 PD4(OC1B), 19 PD5(OC1A), 20 PD6(ICP1), 21 PD7(OC2), 22 PC0(SCK), 23 PC1(SDA), 24 PC2(TCK), 25 PC3(TMS), 26 PC4(TDO), 27 PC5(TDI), 28 PC6(TOSC1), 29 PC7(TOSC2), 30 AVCC, 31 GND, 32 AREF, 33 PA7(ADC7), 34 PA6(ADC6), 35 PA5(ADC5), 36 PA4(ADC4), 37 PA4(ADC3), 38 PA2(ADC2), 39 PA1(ADC1), 40 PA0(ADC0)
text: AVR

## AVR下载接口
designator *
下载接口
footprint P2X5 (Connector; Header; 5x2 Position)
footprint P2X5B (Connector; Header; 5x2 Position)
pins: 1 MOSI, 2 VCC, 3, 4 GND, 5 RST, 6 GND, 7 SCK, 8 GND, 9 MISO, 10 GND

## Battery
designator B?
Publisher: 胡浩; Published: 20110321
footprint CELLBOX (cell box; 2 leads; 800mil)
footprint CR1220 (电池座封装)
footprint 电池座
pins: 1 VCC, 2 GND

## BNC
designator P?
BNC Elbow Connector; LatestRevisionDate: 17-Jul-2002; LatestRevisionNote: Re-released for DXP Platform.; Publisher: Altium Limited
footprint SMB_V-RJ45 (Connector; SMB Straight)
footprint RJ45 (示波器信号源接头)
pins: 1 X, 2 Y

## BTN7971B
designator U?
High Current PN Half Bridge NovalithIC, 4.5 to 28 V, -40 to 150 degC, PG-TO263-7-1, Reel, Green; Manufacturer: Infineon; PartNumber: BTN7971B; Green: TRUE; ID(lim): 70 A; ID(lim) (min): 50 A; Iq (typ): 7 uA; Protect: OV, UV, OT, OC; RDS(on) (typ): 16 m Ohm; VS (max): 45 V; DatasheetVersion: Rev. 2.0; PackageVersion: May-07; PackageReference: PG-TO263-7-1; PackageDescription: 7-Pin Plastic (Green) Transistor Single Outline Package, 9.25 x 10 mm Body, 1.27 mm Pitch; Supplier 1: Digi-Key; Supplier Part Number 1: BTN7971BTR-ND; Supplier 2: Digi-Key; Supplier Part Number 2: BTN7971BCT-ND; Supplier 3: Digi-Key; Supplier Part Number 3: BTN7971BDKR-ND; Supplier 4: Mouser; Supplier Part Number 4: 726-BTN7971B; Group: NovalithIC; Halogen-free: TRUE; Inhibit: TRUE; Operating Range: 4.5 to 28 V; Mounting Technology: Surface Mount; ComponentLink1Description: Manufacturer URL; ComponentLink1URL: http://www.infineon.com/; ComponentLink2Description: Datasheet; ComponentLink2URL: http://www.infineon.com/dgdl/BTN7971B_DS_20.pdf?folderId=db3a3043156fd5730116144c5d101c30&fileId=db3a30431add1d95011aee02ab870358&location=en.Products.Automotive_ICs.Motor_Drivers__Automotive_.Integrated_High_Current_Motor_Drivers__NovalithIC____Trilith_IC_.DATASHEET.BTN7971B_DS_20.pdf; ComponentLink3Description: Package Specification; ComponentLink3URL: http://www.infineon.com/dgdl/TLE5205-2_DS_11%5B1%5D.pdf?folderId=db3a30431b3e89eb011bb632994f065b&fileId=db3a30431f848401011fc747c7a0797f&sId=db3a30433d68e984013d7d43135b5b6a
footprint TO-263-7-1_N (DPAK, 8-Leads, Body 10x9.25mm, Pitch 1.27mm, IPC Medium Density)
footprint DDPAK-7
pins: 1 GND (power) "Ground", 2 IN (in) "Input Defines whether high- or lowside switch is activated", 3 INH (in) "Inhibit When set to low device goes in sleep mode", 4 OUT (power) "Power output of the bridge", 5 SR (in) "Slew Rate The slew rate of the power switches can be adjusted by connecting a resistor between SR and GND", 6 IS (out) "Current Sense and Diagnostics", 7 VS (power) "Supply", 8 OUT (power) "Power output of the bridge"

## buzzer
designator LS?
蜂鸣器,3.3V:200mil;5V:300mil
footprint buzzer_300 (buzzer; 2 leads; 300mil;)
footprint buzzer_200 (buzzer; 2 leads; 200mil;)
pins: 1 +, 2 -

## Cap
designator C?  (value not drawn)
无极性电容; Published: 8-Jun-2000; LatestRevisionDate: 17-Jul-2002; LatestRevisionNote: Re-released for DXP Platform.; PackageReference: RAD-0.3; Publisher: Altium Limited
footprint CAP (100mil DES)
footprint 0805 (2012)
footprint 独石电容
footprint 高压瓷片电容
footprint RAD-0.4 (Radial Cap, Thru-Hole; 2 Leads; 0.4 in Pin Spacing)
footprint RAD-0.2 (Radial Cap, Thru-Hole; 2 Leads; 0.2 in Pin Spacing)
footprint RAD-0.1 (Radial Cap, Thru-Hole; 2 Leads; 0.1 in Pin Spacing)
footprint RAD-0.3 (Radial Cap, Thru-Hole; 2 Leads; 0.3 in Pin Spacing)
footprint 0603
footprint 0402 (Chip Capacitor, Body 1.0x0.5mm, IPC High Density)
footprint 1206
pins: 1, 2
2 alternate drawings of the same symbol

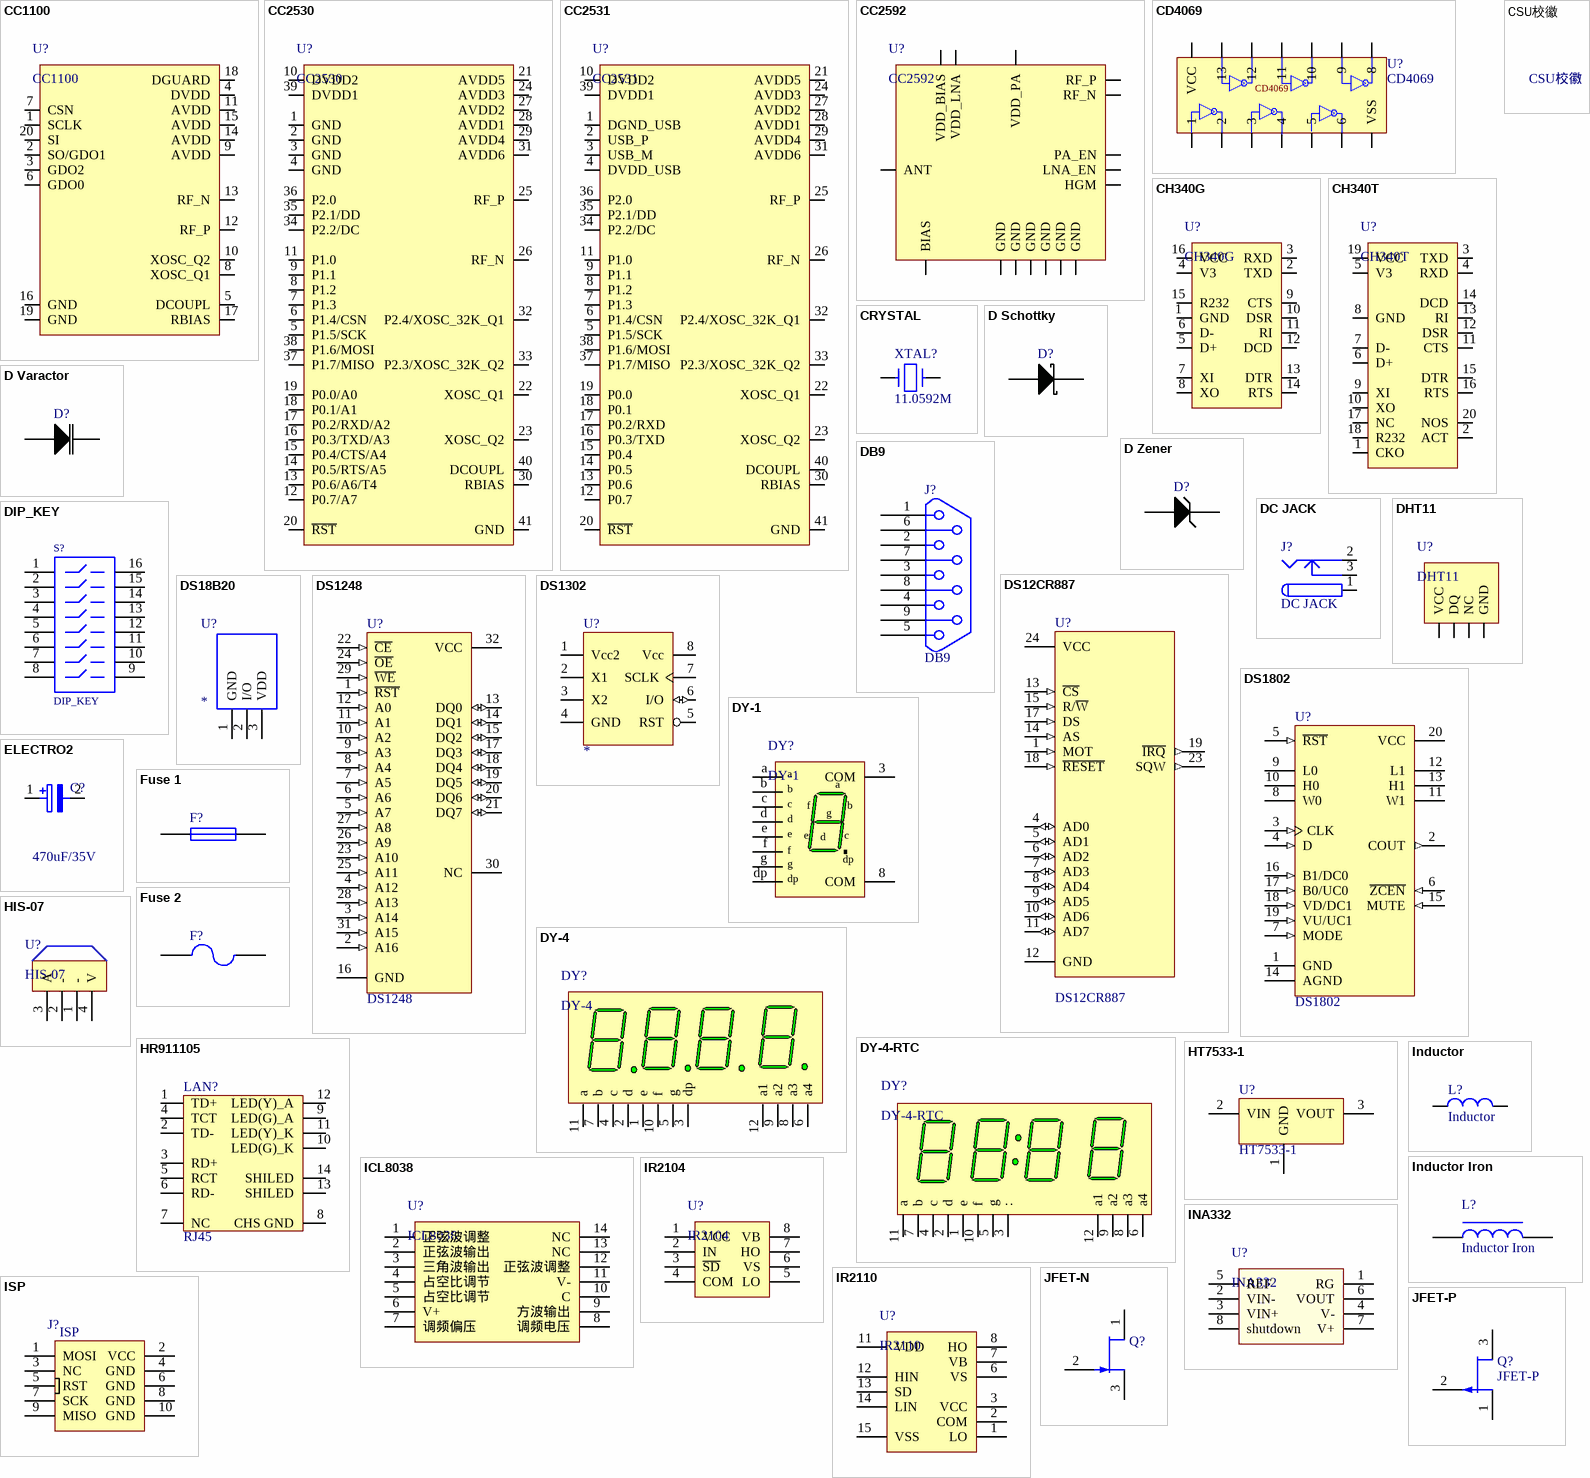
[diagram p2: symbols CC1100 to JFET-P]

## CC1100
designator U?
低功耗Sub-GHz RF 收发器，470/950 MHz ISM/SRD; 封装: QFN-20,pitch 0.5mm
footprint QFN-20 (Footprint not found)
pins: 1 SCLK, 2 SO/GDO1, 3 GDO2, 4 DVDD, 5 DCOUPL, 6 GDO0, 7 CSN, 8 XOSC_Q1, 9 AVDD, 10 XOSC_Q2, 11 AVDD, 12 RF_P, 13 RF_N, 14 AVDD, 15 AVDD, 16 GND, 17 RBIAS, 18 DGUARD, 19 GND, 20 SI

## CC2530
designator U?
CC2530:ZigBee
footprint QFN-40 (QFN, 40-Leads, Body 6x6mm, Pitch 0.5mm, IPC Low Density)
pins: 1 GND, 2 GND, 3 GND, 4 GND, 5 P1.5/SCK, 6 P1.4/CSN, 7 P1.3, 8 P1.2, 9 P1.1, 10 DVDD2, 11 P1.0, 12 P0.7/A7, 13 P0.6/A6/T4, 14 P0.5/RTS/A5, 15 P0.4/CTS/A4, 16 P0.3/TXD/A3, 17 P0.2/RXD/A2, 18 P0.1/A1, 19 P0.0/A0, 20 ~{RST}, 21 AVDD5, 22 XOSC_Q1, 23 XOSC_Q2, 24 AVDD3, 25 RF_P, 26 RF_N, 27 AVDD2, 28 AVDD1, 29 AVDD4, 30 RBIAS, 31 AVDD6, 32 P2.4/XOSC_32K_Q1, 33 P2.3/XOSC_32K_Q2, 34 P2.2/DC, 35 P2.1/DD, 36 P2.0, 37 P1.7/MISO, 38 P1.6/MOSI, 39 DVDD1, 40 DCOUPL, 41 GND

## CC2531
designator U?
CC2531:ZigBee
footprint QFN-40 (QFN, 40-Leads, Body 6x6mm, Pitch 0.5mm, IPC Low Density)
pins: 1 DGND_USB, 2 USB_P, 3 USB_M, 4 DVDD_USB, 5 P1.5/SCK, 6 P1.4/CSN, 7 P1.3, 8 P1.2, 9 P1.1, 10 DVDD2, 11 P1.0, 12 P0.7, 13 P0.6, 14 P0.5, 15 P0.4, 16 P0.3/TXD, 17 P0.2/RXD, 18 P0.1, 19 P0.0, 20 ~{RST}, 21 AVDD5, 22 XOSC_Q1, 23 XOSC_Q2, 24 AVDD3, 25 RF_P, 26 RF_N, 27 AVDD2, 28 AVDD1, 29 AVDD4, 30 RBIAS, 31 AVDD6, 32 P2.4/XOSC_32K_Q1, 33 P2.3/XOSC_32K_Q2, 34 P2.2/DC, 35 P2.1/DD, 36 P2.0, 37 P1.7/MISO, 38 P1.6/MOSI, 39 DVDD1, 40 DCOUPL, 41 GND

## CC2592
designator U?
cc2592-2.4GHz射频前端
footprint QFN-16V (QFN 4X4mm, pitch 0.65mm)
pins: 1 GND, 2 RF_N, 3 RF_P, 4 GND, 5 PA_EN, 6 LNA_EN, 7 HGM "Digital control termina", 8 BIAS, 9 GND, 10 ANT, 11 GND, 12 GND, 13 VDD_LNA, 14 VDD_BIAS, 15 VDD_PA, 16 GND

## CD4069
designator U?
六反相器
footprint SOP-14 (SOP, 14-Leads, Body 8.7x3.9mm (max), Pitch 1.27mm, IPC Medium Density)
footprint DIP-14
pins: 1, 2, 3, 4, 5, 6, 7 VSS, 8, 9, 10, 11, 12, 13, 14 VCC

## CH340G
designator U?
USB TO TTL
footprint SOP16 (SOP, 16-Leads, Body 10.0x4.0mm (max), Pitch 1.27mm, IPC Medium Density)
pins: 1  GND, 2 TXD, 3 RXD, 4 V3, 5 D+, 6 D-, 7 XI, 8 XO, 9 CTS, 10 DSR, 11 RI, 12 DCD, 13 DTR, 14 RTS, 15 R232, 16 VCC

## CH340T
designator U?
USB TO TTL,引脚间距25mil(0.65mm)
footprint SSOP20_N (SOP, 20-Leads, Body 7.2x5.3mm, Pitch 0.65mm, IPC Medium Density)
pins: 1 CKO, 2 ACT, 3 TXD, 4 RXD, 5 V3, 6 D+ "DP", 7 D- "DM", 8 GND, 9 XI, 10 XO, 11 CTS, 12 DSR, 13 RI, 14 DCD, 15 DTR, 16 RTS, 17 NC, 18 R232, 19 VCC, 20 NOS

## CRYSTAL
designator XTAL?, comment 11.0592M
石英晶振，直插
footprint XTAL
footprint 32768 (32768 PIN)
footprint SM-49 (贴片晶振)
footprint XTAL-32768
pins: 1, 2
2 alternate drawings of the same symbol

## CSU校徽
designator ?
CSU校徽，丝印层
footprint CSU校徽 (CSU)

## D Schottky
designator D?
Schottky Diode; Published: 8-Jun-2000; LatestRevisionDate: 17-Jul-2002; LatestRevisionNote: Re-released for DXP Platform.; PackageReference: SMB; Publisher: Altium Limited; PackageDescription: DO-214-AA/SMB; 2 C-Bend Leads; Body 5.3 x 3.6 mm, inc. leads (LxW); Code_JEDEC: DO-214-AA
footprint SMB (DO-214-AA/SMB; 2 C-Bend Leads; Body 5.3 x 3.6 mm, inc. leads (LxW))
pins: 1 A, 2 K

## D Varactor
designator D?
Variable Capacitance Diode; Note: Pin 2 is not connected and not drawn.; Published: 8-Jun-2000; LatestRevisionDate: 29-May-2009; LatestRevisionNote: IPC-7351 Footprint Added.; DatasheetVersion: Jan-1998; PackageVersion: 1996; PackageReference: SOT23A; Publisher: Altium Limited; PackageDescription: 3-Pin SOT-23 Package 0.95 mm Pitch, 2.3 mm Lead Span - Reverse Pinning; ComponentLink1Description: Manufacturer Link; ComponentLink1URL: http://www.zetex.com/
footprint DIODE-0.4 (Diode, Thru-Hole; 2 Leads; 0.4 in Pin Spacing)
pins: 1 K, 2 A

## D Zener
designator D?
Zener Diode; Published: 8-Jun-2000; LatestRevisionDate: 17-Jul-2002; LatestRevisionNote: Re-released for DXP Platform.; PackageReference: DIODE-0.7; Publisher: Altium Limited; PackageDescription: Diode, Thru-Hole; 2 Leads; 0.7 in Pin Spacing
footprint DIODE-0.4 (Diode, Thru-Hole; 2 Leads; 0.4 in Pin Spacing)
footprint 1206
pins: 1 A, 2 K

## DB9
designator J?
串口
footprint DB9-F (DB9)
footprint DB9 (DB9表贴封装)
pins: 1, 2, 3, 4, 5, 6, 7, 8, 9
2 alternate drawings of the same symbol

## DC JACK
designator J?
Low Voltage Power Supply Connector; Published: 17-Dec-2003; DatasheetDocument: 09-May-2002; Publisher: Altium Limited; ComponentLink1Description: Manufacturer Link; ComponentLink1URL: http://domino.kycon.com/internet/Products.html
footprint DC座
pins: 1 (power), 2 (power), 3 (power)

## DHT11
designator U?
数字式温湿度传感器，3-5.5V
footprint DHT11 (数字式温湿度传感器封装；LXWXH:12mmX5.5mmX15.5mm)
pins: 1 VCC, 2 DQ, 3 NC, 4 GND

## DIP_KEY
designator S?
DIP Switch Side actuator long liver Piano Key; Revision: July-2002: Re-released for DXP Platform.
footprint DIP-16-KEY
pins: 1, 2, 3, 4, 5, 6, 7, 8, 9, 10, 11, 12, 13, 14, 15, 16

## DS12CR887
designator U?
带有恒压涓流充电器的RTC; Note: Pin number 1 is Not Connected (NC); Published: 13-Oct-2000; LatestRevisionDate: 17-Jul-2002; LatestRevisionNote: PCB footprint, 'DIP-P32/Y1.2' replaced; Re-released for DXP Platform.; DatasheetVersion: 27-Jul-1999; PackageReference: ENDIP32A; Publisher: Altium Limited; PackageDescription: DIP; 32 Rectangular Pins; Row Space 15.24 mm; Pitch 2.54 mm; ComponentLink1Description: Manufacturer Link; ComponentLink1URL: http://www.maxim-ic.com/; ComponentLink2Description: Datasheet; ComponentLink2URL: http://pdfserv.maxim-ic.com/en/ds/DS1233M.pdf; ComponentLink3Description: Discontinuation Notice; ComponentLink3URL: http://www.maxim-ic.com/qa/pdfs/non-obsolescence-letter.pdf
footprint ENDIP24A
pins: 1 MOT (in), 4 AD0 (io), 5 AD1 (io), 6 AD2 (io), 7 AD3 (io), 8 AD4 (io), 9 AD5 (io), 10 AD6 (io), 11 AD7 (io), 12 GND, 13 ~{CS} (in), 14 AS (in), 15 R/~{W} (in), 17 DS (in), 18 ~{RESET} (in), 19 ~{IRQ} (out), 23 SQW (out), 24 VCC

## DS18B20
designator U?
数字温度传感器
footprint DS18B20 (DS18B20 FOOTPRINT 50mil)
pins: 1 GND, 2 I/O, 3 VDD

## DS1248
designator U?
1024K Nonvolatile SRAM with Phantom Clock; Note: Pin number 1 is Not Connected (NC); Published: 13-Oct-2000; LatestRevisionDate: 17-Jul-2002; LatestRevisionNote: PCB footprint, 'DIP-P32/Y1.2' replaced; Re-released for DXP Platform.; DatasheetVersion: 27-Jul-1999; PackageReference: ENDIP32A; Publisher: Altium Limited; PackageDescription: DIP; 32 Rectangular Pins; Row Space 15.24 mm; Pitch 2.54 mm; ComponentLink1Description: Manufacturer Link; ComponentLink1URL: http://www.maxim-ic.com/; ComponentLink2Description: Datasheet; ComponentLink2URL: http://pdfserv.maxim-ic.com/en/ds/DS1233M.pdf; ComponentLink3Description: Discontinuation Notice; ComponentLink3URL: http://www.maxim-ic.com/qa/pdfs/non-obsolescence-letter.pdf
footprint ENDIP32A (DIP; 32 Rectangular Pins; Row Space 15.24 mm; Pitch 2.54 mm)
pins: 1 ~{RST} (in), 2 A16 (in), 3 A14 (in), 4 A12 (in), 5 A7 (in), 6 A6 (in), 7 A5 (in), 8 A4 (in), 9 A3 (in), 10 A2 (in), 11 A1 (in), 12 A0 (in), 13 DQ0 (io), 14 DQ1 (io), 15 DQ2 (io), 16 GND (power), 17 DQ3 (io), 18 DQ4 (io), 19 DQ5 (io), 20 DQ6 (io), 21 DQ7 (io), 22 ~{CE} (in), 23 A10 (in), 24 ~{OE} (in), 25 A11 (in), 26 A9 (in), 27 A8 (in), 28 A13 (in), 29 ~{WE} (in), 30 NC, 31 A15 (in), 32 VCC (power)

## DS1302
designator U?
实时时钟芯片
footprint DIP-8
footprint SOP-8
pins: 1 Vcc2, 2 X1, 3 X2, 4 GND, 5 RST, 6 I/O (io), 7 SCLK, 8 Vcc

## DS1802
designator U?
Dual Audio Taper Potentiometer with Pushbutton Control; Published: 13-Oct-2000; LatestRevisionDate: 13-Apr-2006; LatestRevisionNote: IPC-7351 Footprint Added.; DatasheetVersion: 19-Oct-1999; PackageVersion: 1999; PackageReference: SOIC20; Publisher: Altium Limited; PackageDescription: 20-Pin Small Outline Integrated Circuit 1.27 mm Pitch; ComponentLink1Description: Manufacturer Link; ComponentLink1URL: http://www.maxim-ic.com/; ComponentLink2Description: Datasheet; ComponentLink2URL: http://pdfserv.maxim-ic.com/en/ds/DS1802.pdf
footprint SOIC-20N (SOIC, 20-Leads, Body 13.0x7.6mm (max), Pitch 1.27mm, IPC Medium Density)
pins: 1 GND (power), 2 COUT (out), 3 CLK (in), 4 D (in), 5 ~{RST} (in), 6 ~{ZCEN} (in), 7 MODE (in), 8 W0, 9 L0, 10 H0, 11 W1, 12 L1, 13 H1, 14 AGND (power), 15 MUTE (in), 16 B1/DC0 (in), 17 B0/UC0 (in), 18 VD/DC1 (in), 19 VU/UC1 (in), 20 VCC (power)

## DY-1
designator DY?
1位数码管
footprint DY-1 (1位数码管封装)
pins: 3 COM (power), 8 COM (power), a, b, c, d, dp, e, f, g

## DY-4
designator DY?
4位数码管
footprint DY-4 (4位数码管_( 大))
pins: 1 e, 2 d, 3 dp, 4 c, 5 g, 6 a4, 7 b, 8 a3, 9 a2, 10 f, 11 a, 12 a1

## DY-4-RTC
designator DY?
4位时钟数码管
footprint DY-4 - RTC (4位数码管_( 大))
pins: 1 e, 2 d, 3 :, 4 c, 5 g, 6 a4, 7 b, 8 a3, 9 a2, 10 f, 11 a, 12 a1

## ELECTRO2
designator C?, comment 470uF/35V
电解电容
footprint RB.1/.2 (电解电容封装，100mil; 适用于小容量或者小耐压电容)
footprint RB.1/.2 .5 (电解电容封装，100mil; 适用于小容量或者小耐压电容)
footprint RB.2/.3 (电解电容封装；200mil;300mil 外径)
footprint RB.2/.4 (电解电容封装；200mil；400Mil外径)
footprint RB.2/.5 (电解电容封装；200mil;500mil 外径)
footprint RB.3/.6 (Polarized Capacitor (Radial); 2 Leads;300mil)
pins: 1, 2
2 alternate drawings of the same symbol

## Fuse 1
designator F?
Fuse; Published: 8-Jun-2000; LatestRevisionDate: 17-Jul-2002; LatestRevisionNote: Re-released for DXP Platform.; PackageReference: PIN-W2/E2.8; Publisher: Altium Limited; PackageDescription: Thru-Hole; 2 Leads
footprint 5032-2 (5032无源贴片晶振2P)
footprint 保险管
pins: 1, 2

## Fuse 2
designator F?
Fuse; Published: 8-Jun-2000; LatestRevisionDate: 17-Jul-2002; LatestRevisionNote: Re-released for DXP Platform.; PackageReference: PIN-W2/E2.8; Publisher: Altium Limited; PackageDescription: Thru-Hole; 2 Leads
footprint 2029 (Chip Inductor, Body 2.0x1.2mm, IPC High Density)
footprint 保险管
pins: 1, 2

## HIS-07
designator U?
Smoke Sensor
footprint HIS-07 (离子式烟雾传感器封装)
pins: 1 -, 2 -, 3 A, 4 V

## HR911105
designator LAN?, comment RJ45
网络变压器，带灯
footprint HR911105A (NET_WORK)
pins: 1 TD+, 2 TD-, 3 RD+, 4 TCT, 5 RCT, 6 RD-, 7 NC, 8 CHS GND, 9 LED(G)_A, 10 LED(G)_K, 11 LED(Y)_K, 12 LED(Y)_A, 13 SHILED, 14 SHILED

## HT7533-1
designator U?
0.1A LDO Voltage Regulator; Published: 24-Mar-1999; LatestRevisionDate: 17-Jul-2002; LatestRevisionNote: Re-released for DXP Platform.; PackageReference: D2PAK; Publisher: Altium Limited; Code_JEDEC: SMD-220
footprint SOT89L (SOT89, 3-Leads, Body 4.5x2.4 mm, Pitch 1.5mm, Lead Span 4.1mm, IPC High Density)
pins: 1 GND, 2 VIN, 3 VOUT
2 alternate drawings of the same symbol

## ICL8038
designator U?
函数信号发生器
footprint DIP-14 (DIP, 14-Leads, Row Spacing 300mil, Pitch 2.54mm, Body 19.2x6.3mm)
pins: 1 正弦波调整, 2 正弦波输出, 3 三角波输出, 4 占空比调节, 5 占空比调节, 6 V+, 7 调频偏压, 8 调频电压, 9 方波输出, 10 C, 11 V-, 12 正弦波调整, 13 NC, 14 NC

## INA332
designator U?
Low-Power, Single-Supply, CMOS  INSTRUMENTATION AMPLIFIERS
footprint DIP-8
footprint SOP-8
pins: 1 RG, 2 VIN-, 3 VIN+, 4 V-, 5 REF, 6 VOUT, 7 V+, 8 shutdown

## Inductor
designator L?
Code_IEC: 1005; Published: 8-Jun-2000; LatestRevisionDate: 29-May-2009; LatestRevisionNote: IPC-7351 Footprint Added.; PackageReference: 0402-A; Publisher: Altium Limited; PackageDescription: Chip Inductor; Code_JEITA: 0402
footprint 0402
footprint INDC1608L (Chip Inductor, Body 1.6x0.8mm, IPC High Density)
footprint 2029 (Chip Inductor, Body 2.0x1.2mm, IPC High Density)
footprint 0603 (Chip Inductor, Body 0.6x0.3mm, IPC High Density)
footprint INDC3216 (Chip Inductor, Body 3.2x1.6mm, IPC High Density)
footprint INDC4532 (Chip Inductor, Body 4.5x3.2mm, IPC High Density)
footprint 0805 (2012)
footprint RES-0.4 (resister; 2 leads;400mil)
footprint L5 (电感)
footprint L6 (电感)
footprint 10*10-1 (贴片电感)
footprint 10*10-2 (贴片电感)
footprint 电感12*12
pins: 1, 2

## Inductor Iron
designator L?
Magnetic-Core Inductor; Published: 24-Mar-1999; LatestRevisionDate: 17-Jul-2002; LatestRevisionNote: Re-released for DXP Platform.; PackageReference: AXIAL-0.9; Publisher: Altium Limited; PackageDescription: Axial Device, Thru-Hole; 2 Leads; 0.9 in Pin Spacing
footprint RES-0.2 (resister; 2 leads;200mil)
footprint RES-0.4 (resister; 2 leads;400mil)
footprint 10*10-1 (贴片电感)
footprint 10*10-2 (贴片电感)
footprint L5 (电感)
footprint 3A绕线电感
footprint 铁芯电感
pins: 1, 2

## IR2104
designator U?
HALF-BRIDGE DRIVER
footprint DIP-8
pins: 1 VCC, 2 IN, 3 ~{SD}, 4 COM, 5 LO, 6 VS, 7 HO, 8 VB

## IR2110
designator U?
PWM DRIVER; Publisher: 胡浩; Published: 20110403
footprint SOIC-16 (SOIC, 16-Leads, Body 9.9x3.95mm, Pitch 1.27mm, IPC Low Density)
pins: 1 LO, 2 COM, 3 VCC, 6 VS, 7 VB, 8 HO, 11 VDD, 12 HIN, 13 SD, 14 LIN, 15 VSS

## ISP
designator J?  (value not drawn)
Atmel USBASP ISP; Auther: Garrett Zhao; Comment_1: ISP
footprint ISP (USBASP ISP)
pins: 1 MOSI, 2 VCC, 3 NC, 4 GND, 5 RST, 6 GND, 7 SCK, 8 GND, 9 MISO, 10 GND

## JFET-N
designator Q?
N-Channel JFET; Published: 8-Jun-2000; LatestRevisionDate: 17-Jul-2002; LatestRevisionNote: Re-released for DXP Platform.; PackageReference: TO-254-AA; Publisher: Altium Limited; Code_JEDEC: TO-254-AA
footprint TO-263
pins: 1 D, 2 G, 3 S

## JFET-P
designator Q?
P-Channel JFET; Published: 8-Jun-2000; LatestRevisionDate: 17-Jul-2002; LatestRevisionNote: Re-released for DXP Platform.; PackageReference: TO-18A; Publisher: Altium Limited; PackageDescription: SC-89; 3 Flat Leads; Body 1.6 x 1.6 x 0.7 mm, inc leads (LxWxH typ)
footprint TO-263
pins: 1 D, 2 G, 3 S

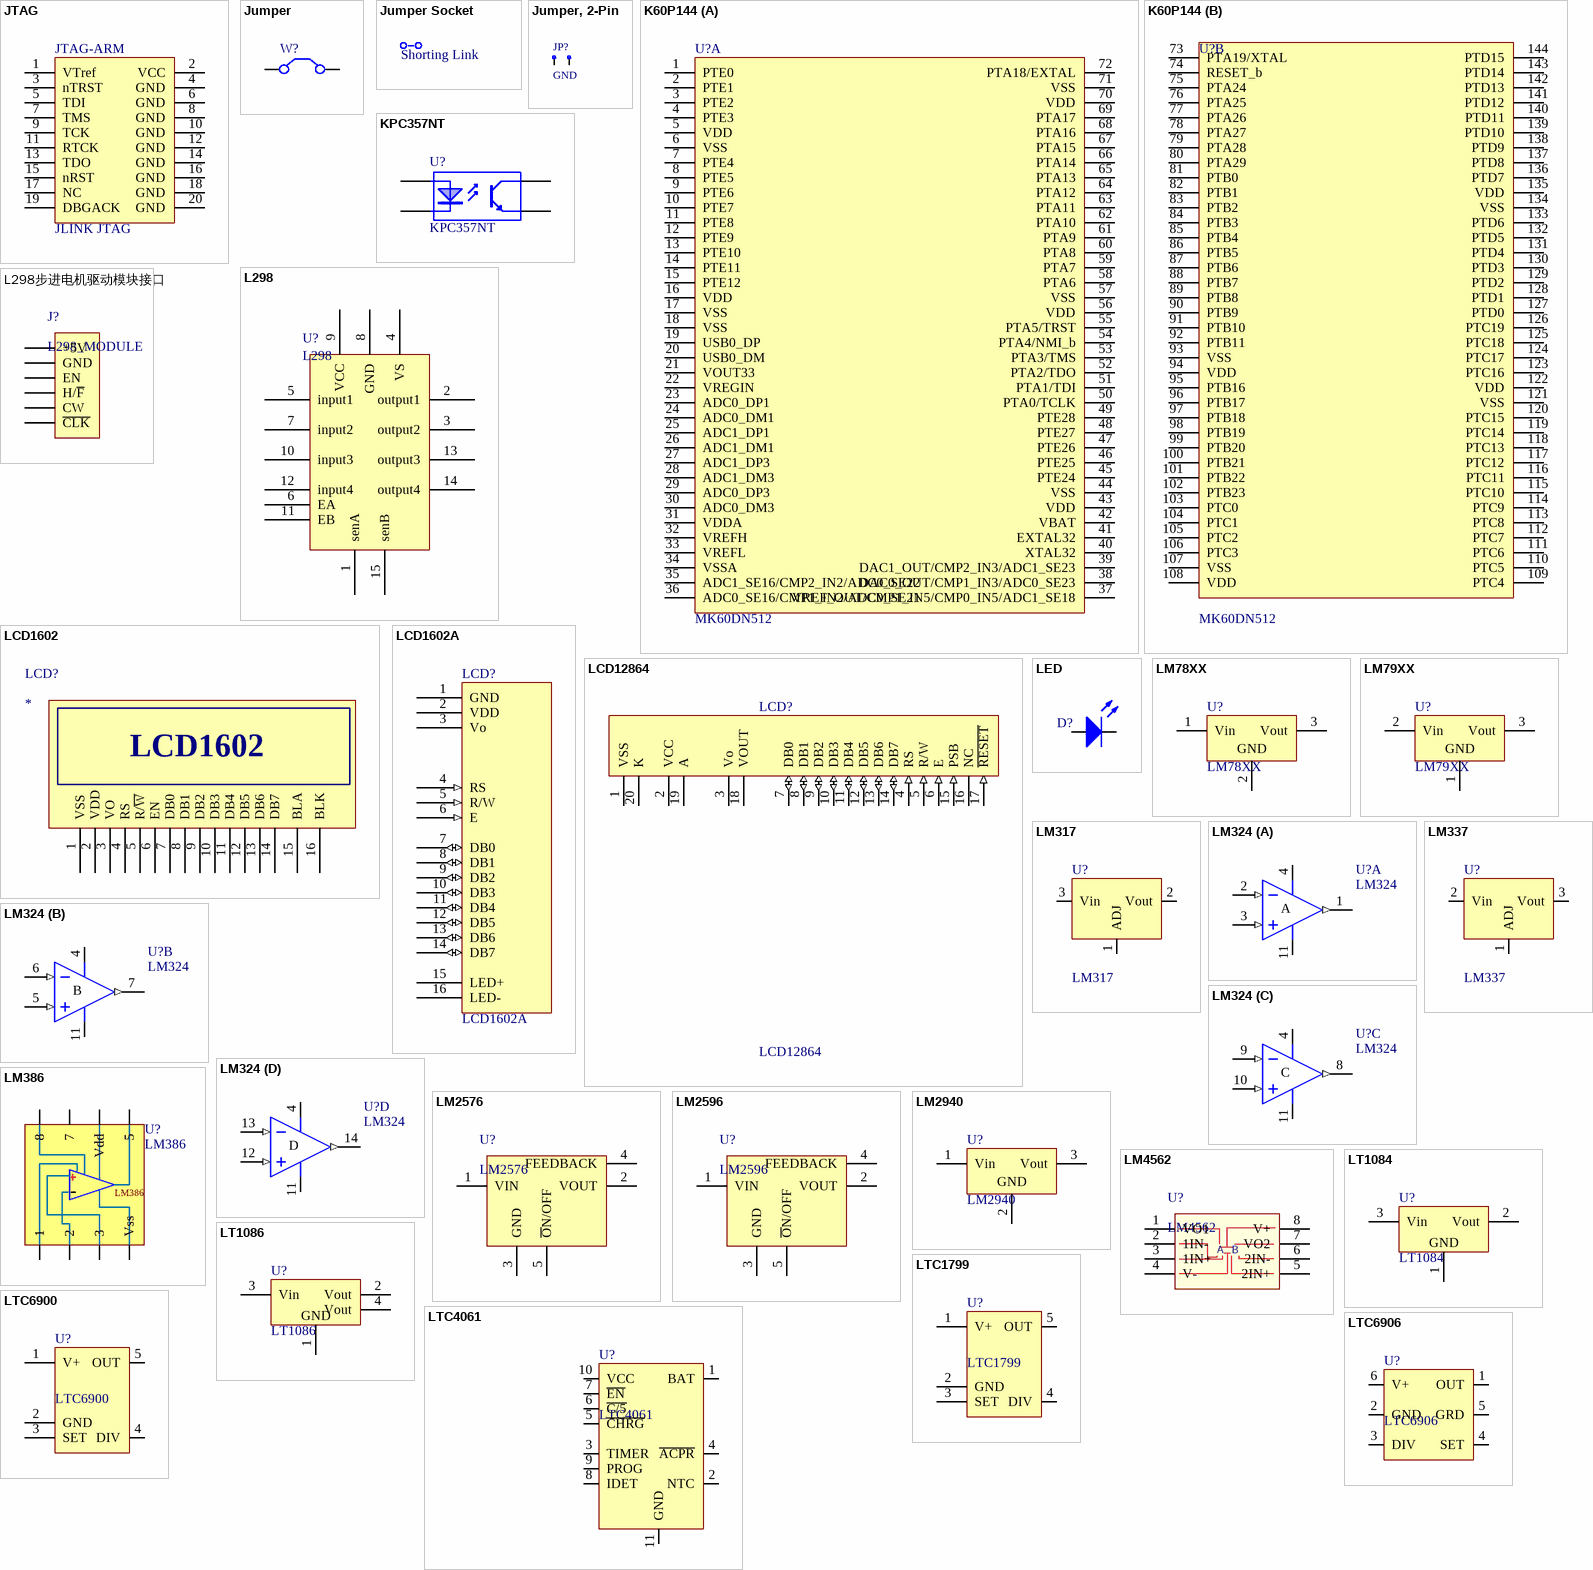
[diagram p3: symbols JTAG to LTC6906]

## JTAG
designator JTAG-ARM, comment JLINK JTAG
JLINK V8 --JTAG PIN; LatestRevisionDate: 17-Jul-2002; LatestRevisionNote: Re-released for DXP Platform.; Publisher: Altium Limited
footprint P2X10 (Connector; Header; 10x2 Position)
pins: 1 VTref, 2 VCC, 3 nTRST, 4 GND, 5 TDI, 6 GND, 7 TMS, 8 GND, 9 TCK, 10 GND, 11 RTCK, 12 GND, 13 TDO, 14 GND, 15 nRST, 16 GND, 17 NC, 18 GND, 19 DBGACK, 20 GND

## Jumper
designator W?
Jumper Wire; Published: 24-Mar-1999; LatestRevisionDate: 17-Jul-2002; LatestRevisionNote: Re-released for DXP Platform.; PackageReference: RAD-0.2; Publisher: Altium Limited; PackageDescription: Radial Cap, Thru-Hole; 2 Leads; 0.2 in Pin Spacing
footprint RAD-0.2 (Radial Cap, Thru-Hole; 2 Leads; 0.2 in Pin Spacing)
pins: 1 C1, 2 C2

## Jumper Socket
designator JS?, comment Shorting Link  (mechanical)
Shorting Link, 2.54mm (0.1") Pitch

## Jumper, 2-Pin
designator JP?, comment GND
Jumper, 2-Pin
footprint 1001-2 (Connector; Header; 2 Position)
pins: 1, 2

## K60P144
designator U?, comment MK60DN512
footprint LQFP144 (LQFP144; Freescale mk60)
footprint TQFP-144 (Thin QFP, 144-Leads, Body 20x20mm, Pitch 0.5mm, IPC High Density)
part A pins: 1 PTE0, 2 PTE1, 3 PTE2, 4 PTE3, 5 VDD, 6 VSS, 7 PTE4, 8 PTE5, 9 PTE6, 10 PTE7, 11 PTE8, 12 PTE9, 13 PTE10, 14 PTE11, 15 PTE12, 16 VDD, 17 VSS, 18 VSS, 19 USB0_DP, 20 USB0_DM, 21 VOUT33, 22 VREGIN, 23 ADC0_DP1, 24 ADC0_DM1, 25 ADC1_DP1, 26 ADC1_DM1, 27 ADC1_DP3, 28 ADC1_DM3, 29 ADC0_DP3, 30 ADC0_DM3, 31 VDDA, 32 VREFH, 33 VREFL, 34 VSSA, 35 ADC1_SE16/CMP2_IN2/ADC0_SE22, 36 ADC0_SE16/CMP1_IN2/ADC0_SE21, 37 VREF_OUT/CMP1_IN5/CMP0_IN5/ADC1_SE18, 38 DAC0_OUT/CMP1_IN3/ADC0_SE23, 39 DAC1_OUT/CMP2_IN3/ADC1_SE23, 40 XTAL32, 41 EXTAL32, 42 VBAT, 43 VDD, 44 VSS, 45 PTE24, 46 PTE25, 47 PTE26, 48 PTE27, 49 PTE28, 50 PTA0/TCLK, 51 PTA1/TDI, 52 PTA2/TDO, 53 PTA3/TMS, 54 PTA4/NMI_b, 55 PTA5/TRST, 56 VDD, 57 VSS, 58 PTA6, 59 PTA7, 60 PTA8, 61 PTA9, 62 PTA10, 63 PTA11, 64 PTA12, 65 PTA13, 66 PTA14, 67 PTA15, 68 PTA16, 69 PTA17, 70 VDD, 71 VSS, 72 PTA18/EXTAL
part B pins: 73 PTA19/XTAL, 74 RESET_b, 75 PTA24, 76 PTA25, 77 PTA26, 78 PTA27, 79 PTA28, 80 PTA29, 81 PTB0, 82 PTB1, 83 PTB2, 84 PTB3, 85 PTB4, 86 PTB5, 87 PTB6, 88 PTB7, 89 PTB8, 90 PTB9, 91 PTB10, 92 PTB11, 93 VSS, 94 VDD, 95 PTB16, 96 PTB17, 97 PTB18, 98 PTB19, 99 PTB20, 100 PTB21, 101 PTB22, 102 PTB23, 103 PTC0, 104 PTC1, 105 PTC2, 106 PTC3, 107 VSS, 108 VDD, 109 PTC4, 110 PTC5, 111 PTC6, 112 PTC7, 113 PTC8, 114 PTC9, 115 PTC10, 116 PTC11, 117 PTC12, 118 PTC13, 119 PTC14, 120 PTC15, 121 VSS, 122 VDD, 123 PTC16, 124 PTC17, 125 PTC18, 126 PTC19, 127 PTD0, 128 PTD1, 129 PTD2, 130 PTD3, 131 PTD4, 132 PTD5, 133 PTD6, 134 VSS, 135 VDD, 136 PTD7, 137 PTD8, 138 PTD9, 139 PTD10, 140 PTD11, 141 PTD12, 142 PTD13, 143 PTD14, 144 PTD15

## KPC357NT
designator U?
光耦; Published: 24-Mar-1999; LatestRevisionDate: 17-Jul-2002; LatestRevisionNote: Re-released for DXP Platform.; Publisher: Altium Limited
footprint DIP-4 (DIP; 4 Leads; Row Spacing 7.62 mm; Pitch 2.54 mm)
pins: 1 A, 2 K, 3 E, 4 C

## L298
designator U?
Publisher: 胡浩; Published: 20110214
footprint Multiwatt15V
pins: 1 senA, 2 output1, 3 output2, 4 VS, 5 input1, 6 EA, 7 input2, 8 GND, 9 VCC, 10 input3, 11 EB, 12 input4, 13 output3, 14 output4, 15 senB

## L298步进电机驱动模块接口
designator J?, comment L298_MODULE
L298步进电机驱动模块接口,6PIN,+5VCC
footprint 1001-6 (Connector; Header; 6 Position)
pins: 1 +5V, 2 GND, 3 EN, 4 H/~{F}, 5 CW, 6 ~{CLK}

## LCD1602
designator LCD?
LCD1602液晶显示器
footprint LCD1602A
footprint LCD1602B
pins: 1 VSS, 2 VDD, 3 VO, 4 RS, 5 R/~{W}, 6 EN, 7 DB0, 8 DB1, 9 DB2, 10 DB3, 11 DB4, 12 DB5, 13 DB6, 14 DB7, 15 BLA "Blacklight +5V", 16 BLK "Blacklight 0V"

## LCD1602A
designator LCD?
16 char * 2 line LCD character display with b/light
footprint LCD1602A
footprint LCD1602B
pins: 1 GND (power) "VSS - 0V", 2 VDD (power) "VDD - 5V", 3 Vo (hiz) "Input Voltage For LCD", 4 RS (in) "H = Data Signal, L = Instrunction Signal", 5 R/W (in) "H = Read Mode, L = Write Mode", 6 E (in) "Chip Enable (H, H->L)", 7 DB0 (io) "Chip Enable (H, H->L)", 8 DB1 (io) "Chip Enable (H, H->L)", 9 DB2 (io) "Chip Enable (H, H->L)", 10 DB3 (io) "Chip Enable (H, H->L)", 11 DB4 (io) "Chip Enable (H, H->L)", 12 DB5 (io) "Chip Enable (H, H->L)", 13 DB6 (io) "Chip Enable (H, H->L)", 14 DB7 (io) "Chip Enable (H, H->L)", 15 LED+ (power) "LED Backlight +", 16 LED- (power) "LED Backlight -"

## LCD12864
designator LCD?
16 char * 2 line LCD character display with b/light
footprint 1001-20 (Connector; Header; 20 Position)
pins: 1 VSS (power) "VSS - 0V", 2 VCC (power) "VDD - 5V", 3 Vo (hiz) "Input Voltage For LCD", 4 RS (in) "H = Data Signal, L = Instrunction Signal", 5 R/W (in) "H = Read Mode, L = Write Mode", 6 E (in) "Chip Enable (H, H->L)", 7 DB0 (io) "Chip Enable (H, H->L)", 8 DB1 (io) "Chip Enable (H, H->L)", 9 DB2 (io) "Chip Enable (H, H->L)", 10 DB3 (io) "Chip Enable (H, H->L)", 11 DB4 (io) "Chip Enable (H, H->L)", 12 DB5 (io) "Chip Enable (H, H->L)", 13 DB6 (io) "Chip Enable (H, H->L)", 14 DB7 (io) "Chip Enable (H, H->L)", 15 PSB (in) "LED Backlight +", 16 NC (power) "LED Backlight -", 17 ~{RESET} (in), 18 VOUT, 19 A, 20 K

## LED
designator D?  (value not drawn)
LED发光二极管; Published: 8-Jun-2000; LatestRevisionDate: 08-Jul-2005; LatestRevisionNote: Mech Layer 1 removed.; PackageReference: LED-0; Publisher: Altium Limited
footprint LED-A (LED-A; 2  leads)
footprint SMT_LED
footprint 1206
footprint 0603
pins: 1 正极, 2 负极
2 alternate drawings of the same symbol

## LM78XX
designator U?
Voltage Regulator; Published: 24-Mar-1999; LatestRevisionDate: 17-Jul-2002; LatestRevisionNote: Re-released for DXP Platform.; PackageReference: D2PAK; Publisher: Altium Limited; Code_JEDEC: SMD-220
footprint TO-220AB
footprint TO-263
pins: 1 Vin, 2 GND, 3 Vout
2 alternate drawings of the same symbol

## LM79XX
designator U?
负电压输出-LM79XX; Published: 24-Mar-1999; LatestRevisionDate: 17-Jul-2002; LatestRevisionNote: Re-released for DXP Platform.; PackageReference: D2PAK; Publisher: Altium Limited; Code_JEDEC: SMD-220
footprint TO-220AB
footprint TO-263
pins: 1 GND, 2 Vin, 3 Vout
2 alternate drawings of the same symbol

## LM317
designator U?
三端可调正电压稳压器
footprint TO-220AB
pins: 1 ADJ, 2 Vout, 3 Vin